# Altium integrated library Xilinx CoolRunner II.IntLib: 198 symbols (part 7 of 13)
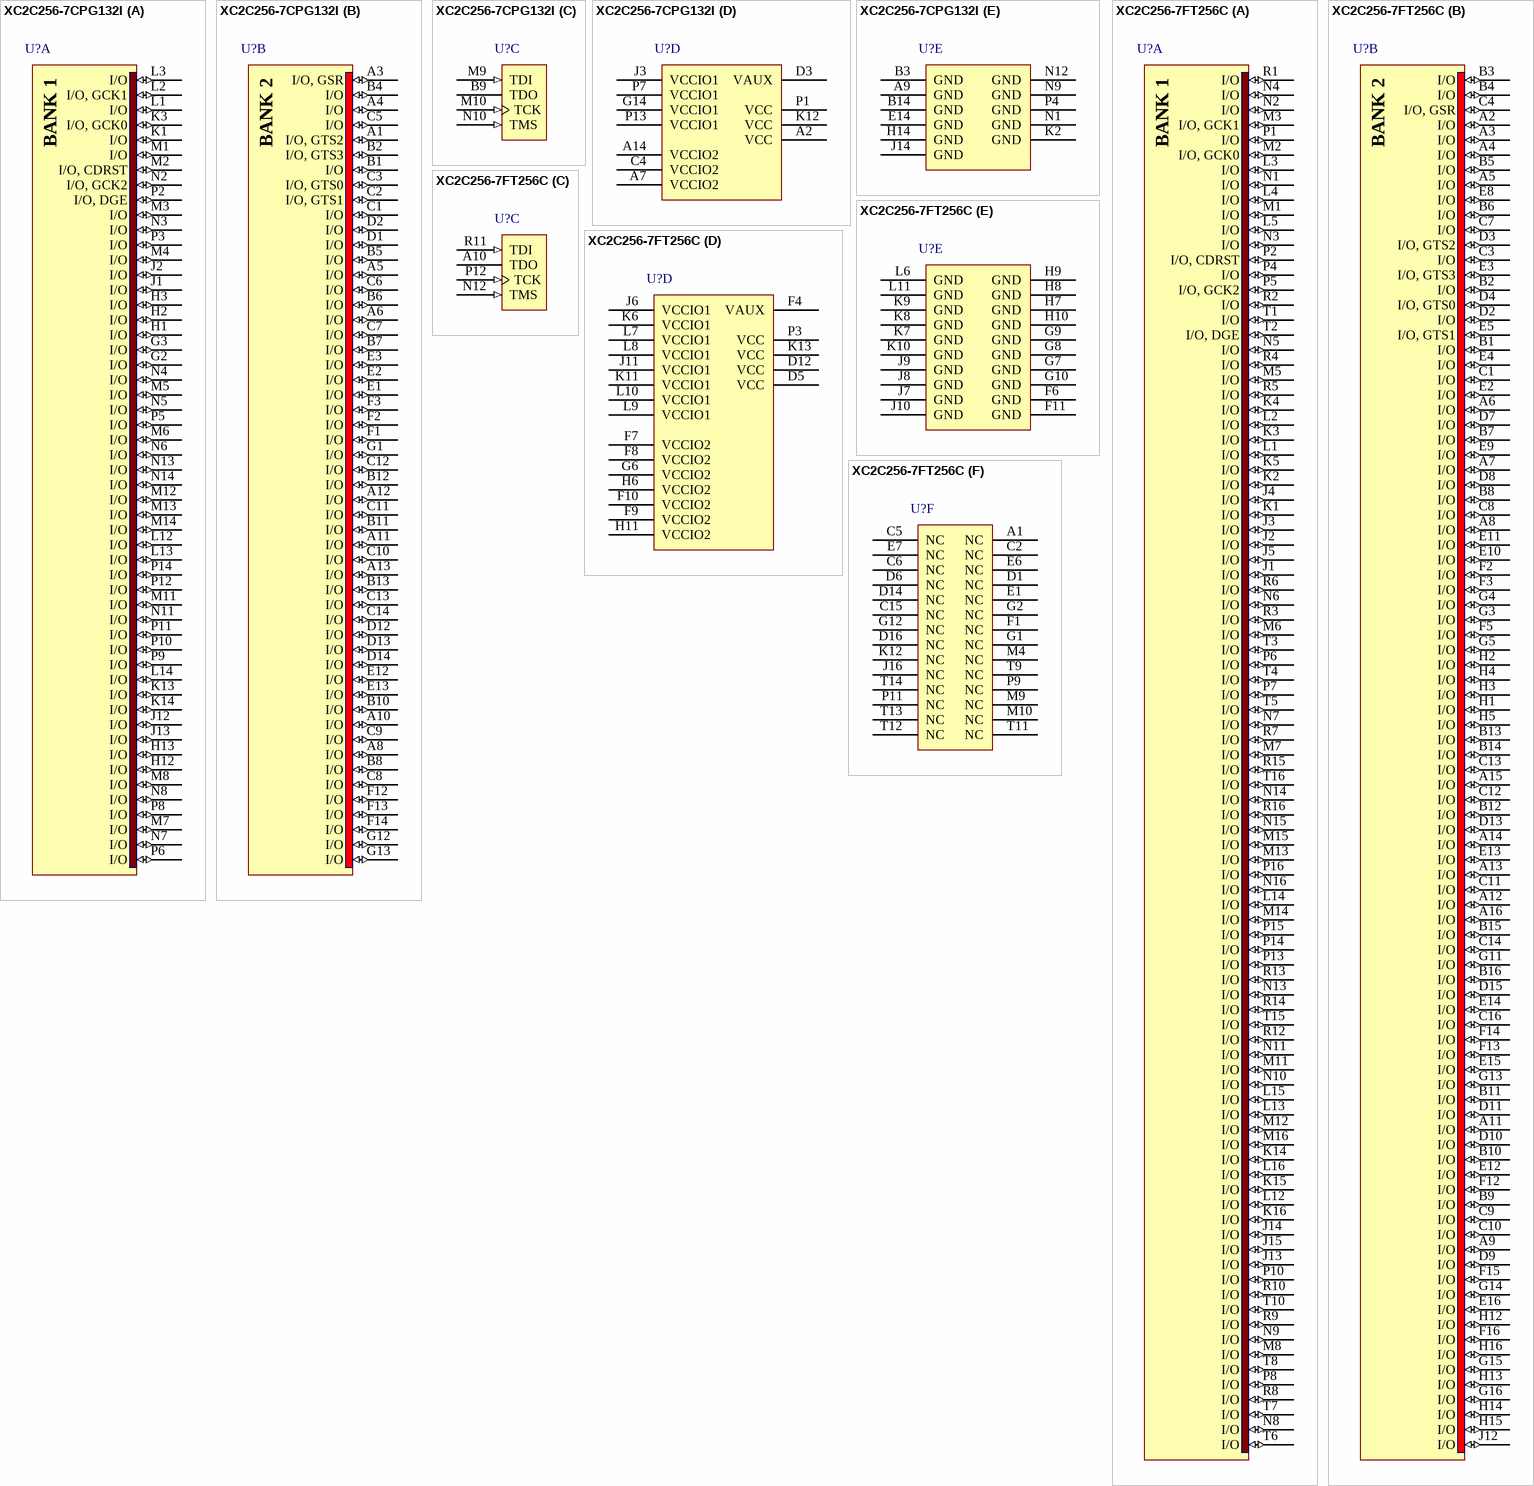
[diagram p75: symbols XC2C256-7CPG132I to XC2C256-7FT256C]

## XC2C256-7CPG132I
designator U?
CoolRunner-II, 1.8V, 256 Macrocell CPLD, 132-Ball CSP, Pb-Free, Industrial Grade; Published: 4-Mar-2005; LatestRevisionDate: 13-Apr-2006; LatestRevisionNote: IPC-7351 Footprint Added.; DatasheetVersion: ver3.2, Mar-2007; PackageVersion: ver1.2, Jun-2004; PackageReference: CPG132; Publisher: Altium Limited; PackageDescription: 132-Ball Chip Scale Ball Grid Array 0.5 mm Pitch (CPG132) - Pb-Free; ComponentLink1Description: Manufacturer Link; ComponentLink1URL: http://www.xilinx.com/products/silicon_solutions/cplds/coolrunner_series/coolrunner_ii_cplds/overview.htm; ComponentLink2Description: Datasheet; ComponentLink2URL: http://direct.xilinx.com/bvdocs/publications/ds094.pdf
footprint CPG132 (BGA, 132-Leads, Body 8x8mm, Pitch 0.5mm)
3D model XC2C256-CP132 (132-Ball Chip Scale Ball Grid Array 0.5 mm Pitch (CPG132) - Pb-Free)
signal-integrity model XC2C256_CP132 (CoolRunner-II)
part A pins: G2 I/O (io), G3 I/O (io), H1 I/O (io), H2 I/O (io), H3 I/O (io), H12 I/O (io), H13 I/O (io), J1 I/O (io), J2 I/O (io), J12 I/O (io), J13 I/O (io), K1 I/O (io), K3 I/O, GCK0 (io), K13 I/O (io), K14 I/O (io), L1 I/O (io), L2 I/O, GCK1 (io), L3 I/O (io), L12 I/O (io), L13 I/O (io), L14 I/O (io), M1 I/O (io), M2 I/O, CDRST (io), M3 I/O (io), M4 I/O (io), M5 I/O (io), M6 I/O (io), M7 I/O (io), M8 I/O (io), M11 I/O (io), M12 I/O (io), M13 I/O (io), M14 I/O (io), N2 I/O, GCK2 (io), N3 I/O (io), N4 I/O (io), N5 I/O (io), N6 I/O (io), N7 I/O (io), N8 I/O (io), N11 I/O (io), N13 I/O (io), N14 I/O (io), P2 I/O, DGE (io), P3 I/O (io), P5 I/O (io), P6 I/O (io), P8 I/O (io), P9 I/O (io), P10 I/O (io), P11 I/O (io), P12 I/O (io), P14 I/O (io)
part B pins: A1 I/O, GTS2 (io), A3 I/O, GSR (io), A4 I/O (io), A5 I/O (io), A6 I/O (io), A8 I/O (io), A10 I/O (io), A11 I/O (io), A12 I/O (io), A13 I/O (io), B1 I/O (io), B2 I/O, GTS3 (io), B4 I/O (io), B5 I/O (io), B6 I/O (io), B7 I/O (io), B8 I/O (io), B10 I/O (io), B11 I/O (io), B12 I/O (io), B13 I/O (io), C1 I/O (io), C2 I/O, GTS1 (io), C3 I/O, GTS0 (io), C5 I/O (io), C6 I/O (io), C7 I/O (io), C8 I/O (io), C9 I/O (io), C10 I/O (io), C11 I/O (io), C12 I/O (io), C13 I/O (io), C14 I/O (io), D1 I/O (io), D2 I/O (io), D12 I/O (io), D13 I/O (io), D14 I/O (io), E1 I/O (io), E2 I/O (io), E3 I/O (io), E12 I/O (io), E13 I/O (io), F1 I/O (io), F2 I/O (io), F3 I/O (io), F12 I/O (io), F13 I/O (io), F14 I/O (io), G1 I/O (io), G12 I/O (io), G13 I/O (io)
part C pins: B9 TDO, M9 TDI (in), M10 TCK (in), N10 TMS (in)
part D pins: A2 VCC (power), A7 VCCIO2 (power), A14 VCCIO2 (power), C4 VCCIO2 (power), D3 VAUX (power), G14 VCCIO1 (power), J3 VCCIO1 (power), K12 VCC (power), P1 VCC (power), P7 VCCIO1 (power), P13 VCCIO1 (power)
part E pins: A9 GND (power), B3 GND (power), B14 GND (power), E14 GND (power), H14 GND (power), J14 GND (power), K2 GND (power), N1 GND (power), N9 GND (power), N12 GND (power), P4 GND (power)
part A text: BANK 1
part B text: BANK 2

## XC2C256-7FT256C
designator U?
CoolRunner-II, 1.8V, 256 Macrocell CPLD, 256-Ball FTBGA, Commercial Grade; Published: 23-Sep-2002; LatestRevisionDate: 13-Apr-2006; LatestRevisionNote: IPC-7351 Footprint Added.; DatasheetVersion: ver3.2, Mar-2007; PackageVersion: ver1.2.1, Mar-2005; PackageReference: FT256; Publisher: Altium Limited; PackageDescription: 256-Ball Fine Pitch Thin Ball Grid Array 1.00 mm Pitch (FT256); Code_JEDEC: MS-034-AAF-1*; ComponentLink1Description: Manufacturer Link; ComponentLink1URL: http://www.xilinx.com/products/silicon_solutions/cplds/coolrunner_series/coolrunner_ii_cplds/overview.htm; ComponentLink2Description: Datasheet; ComponentLink2URL: http://direct.xilinx.com/bvdocs/publications/ds094.pdf
footprint FT256 (BGA, 256-Leads, Body 17x17mm, Pitch 1mm)
3D model XC2C256-FT256 (256-Ball Fine Pitch Thin Ball Grid Array 1.00 mm Pitch (FT256))
signal-integrity model XC2C256_FT256 (CoolRunner-II)
part A pins: J1 I/O (io), J2 I/O (io), J3 I/O (io), J4 I/O (io), J5 I/O (io), J13 I/O (io), J14 I/O (io), J15 I/O (io), K1 I/O (io), K2 I/O (io), K3 I/O (io), K4 I/O (io), K5 I/O (io), K14 I/O (io), K15 I/O (io), K16 I/O (io), L1 I/O (io), L2 I/O (io), L3 I/O (io), L4 I/O (io), L5 I/O (io), L12 I/O (io), L13 I/O (io), L14 I/O (io), L15 I/O (io), L16 I/O (io), M1 I/O (io), M2 I/O, GCK0 (io), M3 I/O, GCK1 (io), M5 I/O (io), M6 I/O (io), M7 I/O (io), M8 I/O (io), M11 I/O (io), M12 I/O (io), M13 I/O (io), M14 I/O (io), M15 I/O (io), M16 I/O (io), N1 I/O (io), N2 I/O (io), N3 I/O (io), N4 I/O (io), N5 I/O (io), N6 I/O (io), N7 I/O (io), N8 I/O (io), N9 I/O (io), N10 I/O (io), N11 I/O (io), N13 I/O (io), N14 I/O (io), N15 I/O (io), N16 I/O (io), P1 I/O (io), P2 I/O, CDRST (io), P4 I/O (io), P5 I/O, GCK2 (io), P6 I/O (io), P7 I/O (io), P8 I/O (io), P10 I/O (io), P13 I/O (io), P14 I/O (io), P15 I/O (io), P16 I/O (io), R1 I/O (io), R2 I/O (io), R3 I/O (io), R4 I/O (io), R5 I/O (io), R6 I/O (io), R7 I/O (io), R8 I/O (io), R9 I/O (io), R10 I/O (io), R12 I/O (io), R13 I/O (io), R14 I/O (io), R15 I/O (io), R16 I/O (io), T1 I/O (io), T2 I/O, DGE (io), T3 I/O (io), T4 I/O (io), T5 I/O (io), T6 I/O (io), T7 I/O (io), T8 I/O (io), T10 I/O (io), T15 I/O (io), T16 I/O (io)
part B pins: A2 I/O (io), A3 I/O (io), A4 I/O (io), A5 I/O (io), A6 I/O (io), A7 I/O (io), A8 I/O (io), A9 I/O (io), A11 I/O (io), A12 I/O (io), A13 I/O (io), A14 I/O (io), A15 I/O (io), A16 I/O (io), B1 I/O (io), B2 I/O (io), B3 I/O (io), B4 I/O (io), B5 I/O (io), B6 I/O (io), B7 I/O (io), B8 I/O (io), B9 I/O (io), B10 I/O (io), B11 I/O (io), B12 I/O (io), B13 I/O (io), B14 I/O (io), B15 I/O (io), B16 I/O (io), C1 I/O (io), C3 I/O (io), C4 I/O, GSR (io), C7 I/O (io), C8 I/O (io), C9 I/O (io), C10 I/O (io), C11 I/O (io), C12 I/O (io), C13 I/O (io), C14 I/O (io), C16 I/O (io), D2 I/O (io), D3 I/O, GTS2 (io), D4 I/O, GTS0 (io), D7 I/O (io), D8 I/O (io), D9 I/O (io), D10 I/O (io), D11 I/O (io), D13 I/O (io), D15 I/O (io), E2 I/O (io), E3 I/O, GTS3 (io), E4 I/O (io), E5 I/O, GTS1 (io), E8 I/O (io), E9 I/O (io), E10 I/O (io), E11 I/O (io), E12 I/O (io), E13 I/O (io), E14 I/O (io), E15 I/O (io), E16 I/O (io), F2 I/O (io), F3 I/O (io), F5 I/O (io), F12 I/O (io), F13 I/O (io), F14 I/O (io), F15 I/O (io), F16 I/O (io), G3 I/O (io), G4 I/O (io), G5 I/O (io), G11 I/O (io), G13 I/O (io), G14 I/O (io), G15 I/O (io), G16 I/O (io), H1 I/O (io), H2 I/O (io), H3 I/O (io), H4 I/O (io), H5 I/O (io), H12 I/O (io), H13 I/O (io), H14 I/O (io), H15 I/O (io), H16 I/O (io), J12 I/O (io)
part C pins: A10 TDO, N12 TMS (in), P12 TCK (in), R11 TDI (in)
part D pins: D5 VCC (power), D12 VCC (power), F4 VAUX (power), F7 VCCIO2 (power), F8 VCCIO2 (power), F9 VCCIO2 (power), F10 VCCIO2 (power), G6 VCCIO2 (power), H6 VCCIO2 (power), H11 VCCIO2 (power), J6 VCCIO1 (power), J11 VCCIO1 (power), K6 VCCIO1 (power), K11 VCCIO1 (power), K13 VCC (power), L7 VCCIO1 (power), L8 VCCIO1 (power), L9 VCCIO1 (power), L10 VCCIO1 (power), P3 VCC (power)
part E pins: F6 GND (power), F11 GND (power), G7 GND (power), G8 GND (power), G9 GND (power), G10 GND (power), H7 GND (power), H8 GND (power), H9 GND (power), H10 GND (power), J7 GND (power), J8 GND (power), J9 GND (power), J10 GND (power), K7 GND (power), K8 GND (power), K9 GND (power), K10 GND (power), L6 GND (power), L11 GND (power)
part F pins: A1 NC, C2 NC, C5 NC, C6 NC, C15 NC, D1 NC, D6 NC, D14 NC, D16 NC, E1 NC, E6 NC, E7 NC, F1 NC, G1 NC, G2 NC, G12 NC, J16 NC, K12 NC, M4 NC, M9 NC, M10 NC, P9 NC, P11 NC, T9 NC, T11 NC, T12 NC, T13 NC, T14 NC
part A text: BANK 1
part B text: BANK 2

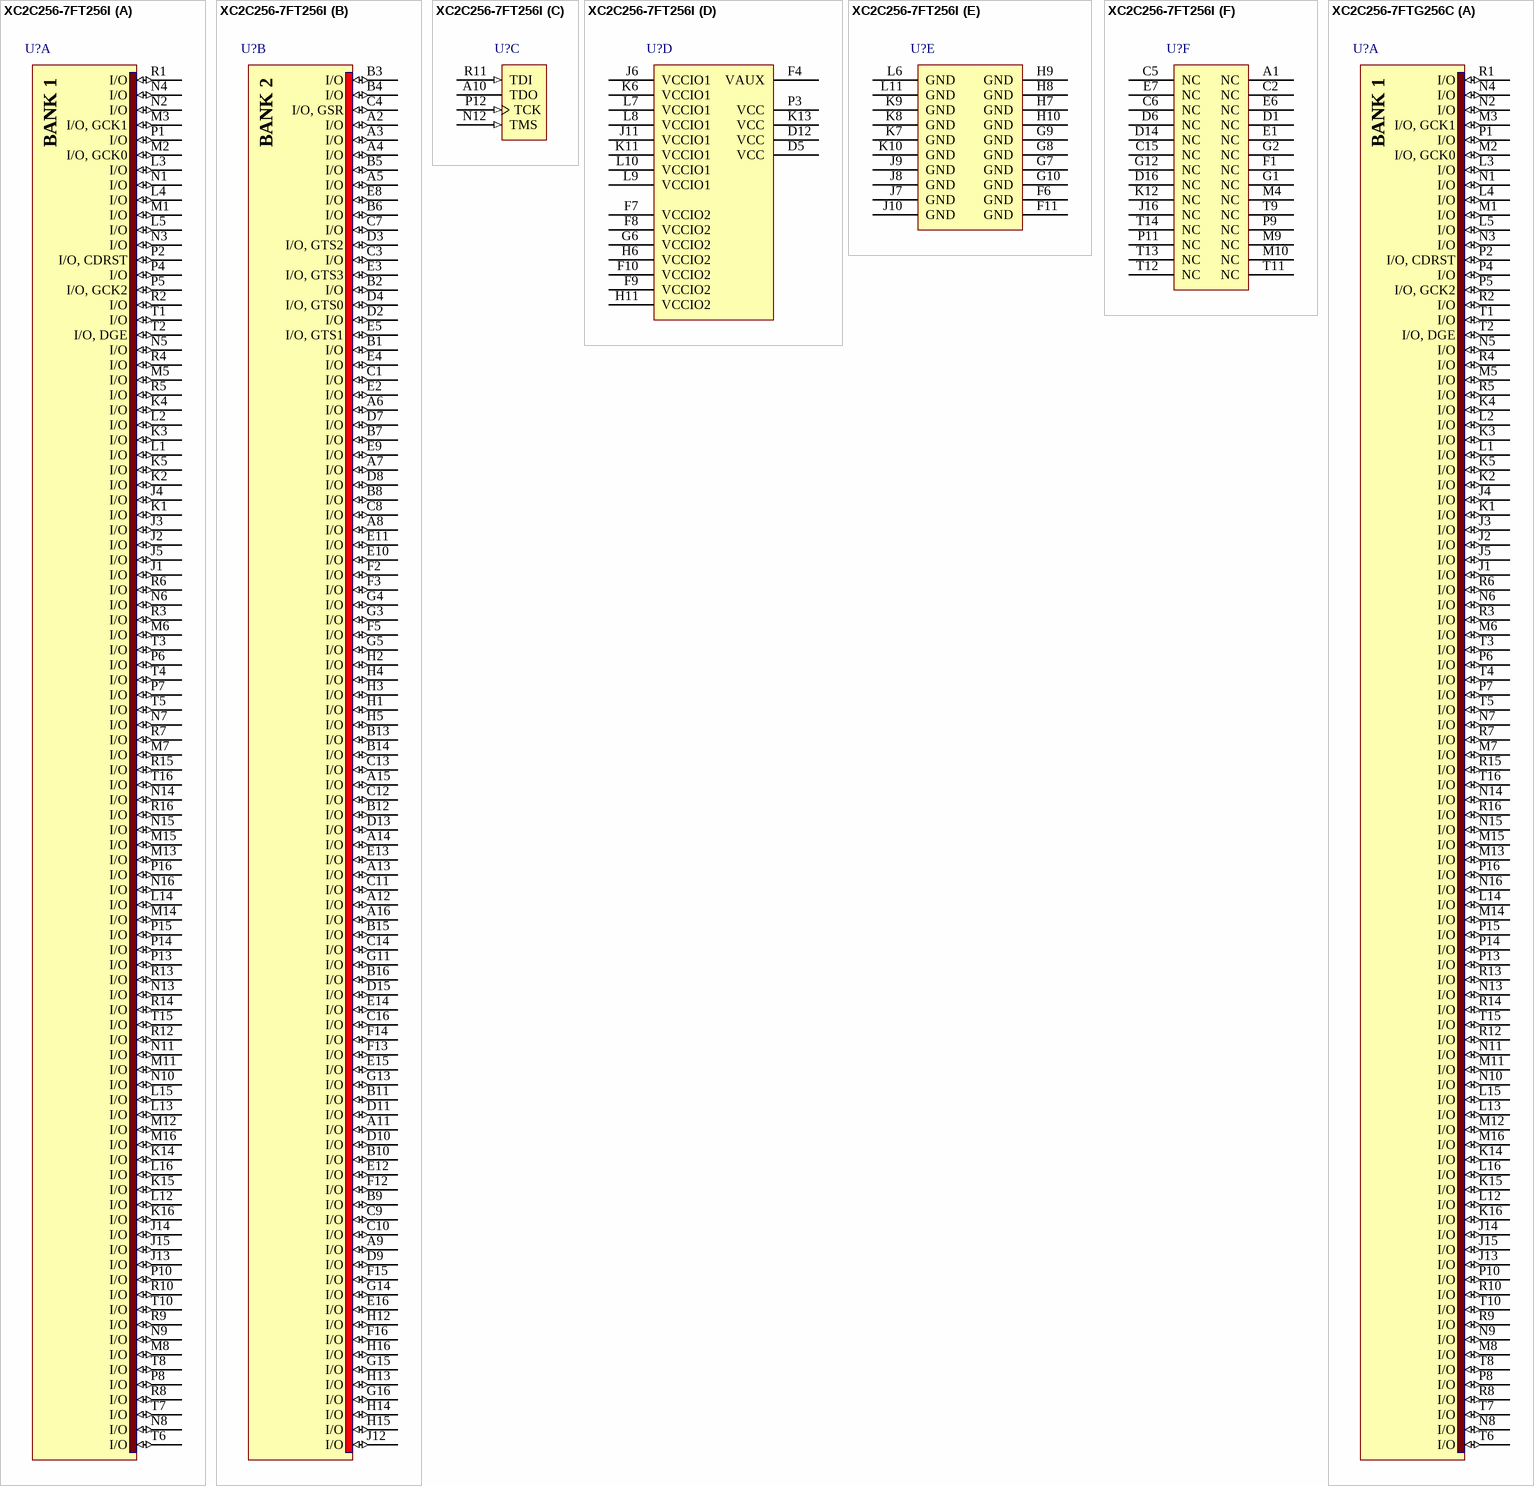
[diagram p30: symbols XC2C256-7FT256I to XC2C256-7FTG256C]

## XC2C256-7FT256I
designator U?
CoolRunner-II, 1.8V, 256 Macrocell CPLD, 256-Ball FTBGA, Industrial Grade; Published: 23-Sep-2002; LatestRevisionDate: 13-Apr-2006; LatestRevisionNote: IPC-7351 Footprint Added.; DatasheetVersion: ver3.2, Mar-2007; PackageVersion: ver1.2.1, Mar-2005; PackageReference: FT256; Publisher: Altium Limited; PackageDescription: 256-Ball Fine Pitch Thin Ball Grid Array 1.00 mm Pitch (FT256); Code_JEDEC: MS-034-AAF-1*; ComponentLink1Description: Manufacturer Link; ComponentLink1URL: http://www.xilinx.com/products/silicon_solutions/cplds/coolrunner_series/coolrunner_ii_cplds/overview.htm; ComponentLink2Description: Datasheet; ComponentLink2URL: http://direct.xilinx.com/bvdocs/publications/ds094.pdf
footprint FT256 (BGA, 256-Leads, Body 17x17mm, Pitch 1mm)
3D model XC2C256-FT256 (256-Ball Fine Pitch Thin Ball Grid Array 1.00 mm Pitch (FT256))
signal-integrity model XC2C256_FT256 (CoolRunner-II)
part A pins: J1 I/O (io), J2 I/O (io), J3 I/O (io), J4 I/O (io), J5 I/O (io), J13 I/O (io), J14 I/O (io), J15 I/O (io), K1 I/O (io), K2 I/O (io), K3 I/O (io), K4 I/O (io), K5 I/O (io), K14 I/O (io), K15 I/O (io), K16 I/O (io), L1 I/O (io), L2 I/O (io), L3 I/O (io), L4 I/O (io), L5 I/O (io), L12 I/O (io), L13 I/O (io), L14 I/O (io), L15 I/O (io), L16 I/O (io), M1 I/O (io), M2 I/O, GCK0 (io), M3 I/O, GCK1 (io), M5 I/O (io), M6 I/O (io), M7 I/O (io), M8 I/O (io), M11 I/O (io), M12 I/O (io), M13 I/O (io), M14 I/O (io), M15 I/O (io), M16 I/O (io), N1 I/O (io), N2 I/O (io), N3 I/O (io), N4 I/O (io), N5 I/O (io), N6 I/O (io), N7 I/O (io), N8 I/O (io), N9 I/O (io), N10 I/O (io), N11 I/O (io), N13 I/O (io), N14 I/O (io), N15 I/O (io), N16 I/O (io), P1 I/O (io), P2 I/O, CDRST (io), P4 I/O (io), P5 I/O, GCK2 (io), P6 I/O (io), P7 I/O (io), P8 I/O (io), P10 I/O (io), P13 I/O (io), P14 I/O (io), P15 I/O (io), P16 I/O (io), R1 I/O (io), R2 I/O (io), R3 I/O (io), R4 I/O (io), R5 I/O (io), R6 I/O (io), R7 I/O (io), R8 I/O (io), R9 I/O (io), R10 I/O (io), R12 I/O (io), R13 I/O (io), R14 I/O (io), R15 I/O (io), R16 I/O (io), T1 I/O (io), T2 I/O, DGE (io), T3 I/O (io), T4 I/O (io), T5 I/O (io), T6 I/O (io), T7 I/O (io), T8 I/O (io), T10 I/O (io), T15 I/O (io), T16 I/O (io)
part B pins: A2 I/O (io), A3 I/O (io), A4 I/O (io), A5 I/O (io), A6 I/O (io), A7 I/O (io), A8 I/O (io), A9 I/O (io), A11 I/O (io), A12 I/O (io), A13 I/O (io), A14 I/O (io), A15 I/O (io), A16 I/O (io), B1 I/O (io), B2 I/O (io), B3 I/O (io), B4 I/O (io), B5 I/O (io), B6 I/O (io), B7 I/O (io), B8 I/O (io), B9 I/O (io), B10 I/O (io), B11 I/O (io), B12 I/O (io), B13 I/O (io), B14 I/O (io), B15 I/O (io), B16 I/O (io), C1 I/O (io), C3 I/O (io), C4 I/O, GSR (io), C7 I/O (io), C8 I/O (io), C9 I/O (io), C10 I/O (io), C11 I/O (io), C12 I/O (io), C13 I/O (io), C14 I/O (io), C16 I/O (io), D2 I/O (io), D3 I/O, GTS2 (io), D4 I/O, GTS0 (io), D7 I/O (io), D8 I/O (io), D9 I/O (io), D10 I/O (io), D11 I/O (io), D13 I/O (io), D15 I/O (io), E2 I/O (io), E3 I/O, GTS3 (io), E4 I/O (io), E5 I/O, GTS1 (io), E8 I/O (io), E9 I/O (io), E10 I/O (io), E11 I/O (io), E12 I/O (io), E13 I/O (io), E14 I/O (io), E15 I/O (io), E16 I/O (io), F2 I/O (io), F3 I/O (io), F5 I/O (io), F12 I/O (io), F13 I/O (io), F14 I/O (io), F15 I/O (io), F16 I/O (io), G3 I/O (io), G4 I/O (io), G5 I/O (io), G11 I/O (io), G13 I/O (io), G14 I/O (io), G15 I/O (io), G16 I/O (io), H1 I/O (io), H2 I/O (io), H3 I/O (io), H4 I/O (io), H5 I/O (io), H12 I/O (io), H13 I/O (io), H14 I/O (io), H15 I/O (io), H16 I/O (io), J12 I/O (io)
part C pins: A10 TDO, N12 TMS (in), P12 TCK (in), R11 TDI (in)
part D pins: D5 VCC (power), D12 VCC (power), F4 VAUX (power), F7 VCCIO2 (power), F8 VCCIO2 (power), F9 VCCIO2 (power), F10 VCCIO2 (power), G6 VCCIO2 (power), H6 VCCIO2 (power), H11 VCCIO2 (power), J6 VCCIO1 (power), J11 VCCIO1 (power), K6 VCCIO1 (power), K11 VCCIO1 (power), K13 VCC (power), L7 VCCIO1 (power), L8 VCCIO1 (power), L9 VCCIO1 (power), L10 VCCIO1 (power), P3 VCC (power)
part E pins: F6 GND (power), F11 GND (power), G7 GND (power), G8 GND (power), G9 GND (power), G10 GND (power), H7 GND (power), H8 GND (power), H9 GND (power), H10 GND (power), J7 GND (power), J8 GND (power), J9 GND (power), J10 GND (power), K7 GND (power), K8 GND (power), K9 GND (power), K10 GND (power), L6 GND (power), L11 GND (power)
part F pins: A1 NC, C2 NC, C5 NC, C6 NC, C15 NC, D1 NC, D6 NC, D14 NC, D16 NC, E1 NC, E6 NC, E7 NC, F1 NC, G1 NC, G2 NC, G12 NC, J16 NC, K12 NC, M4 NC, M9 NC, M10 NC, P9 NC, P11 NC, T9 NC, T11 NC, T12 NC, T13 NC, T14 NC
part A text: BANK 1
part B text: BANK 2

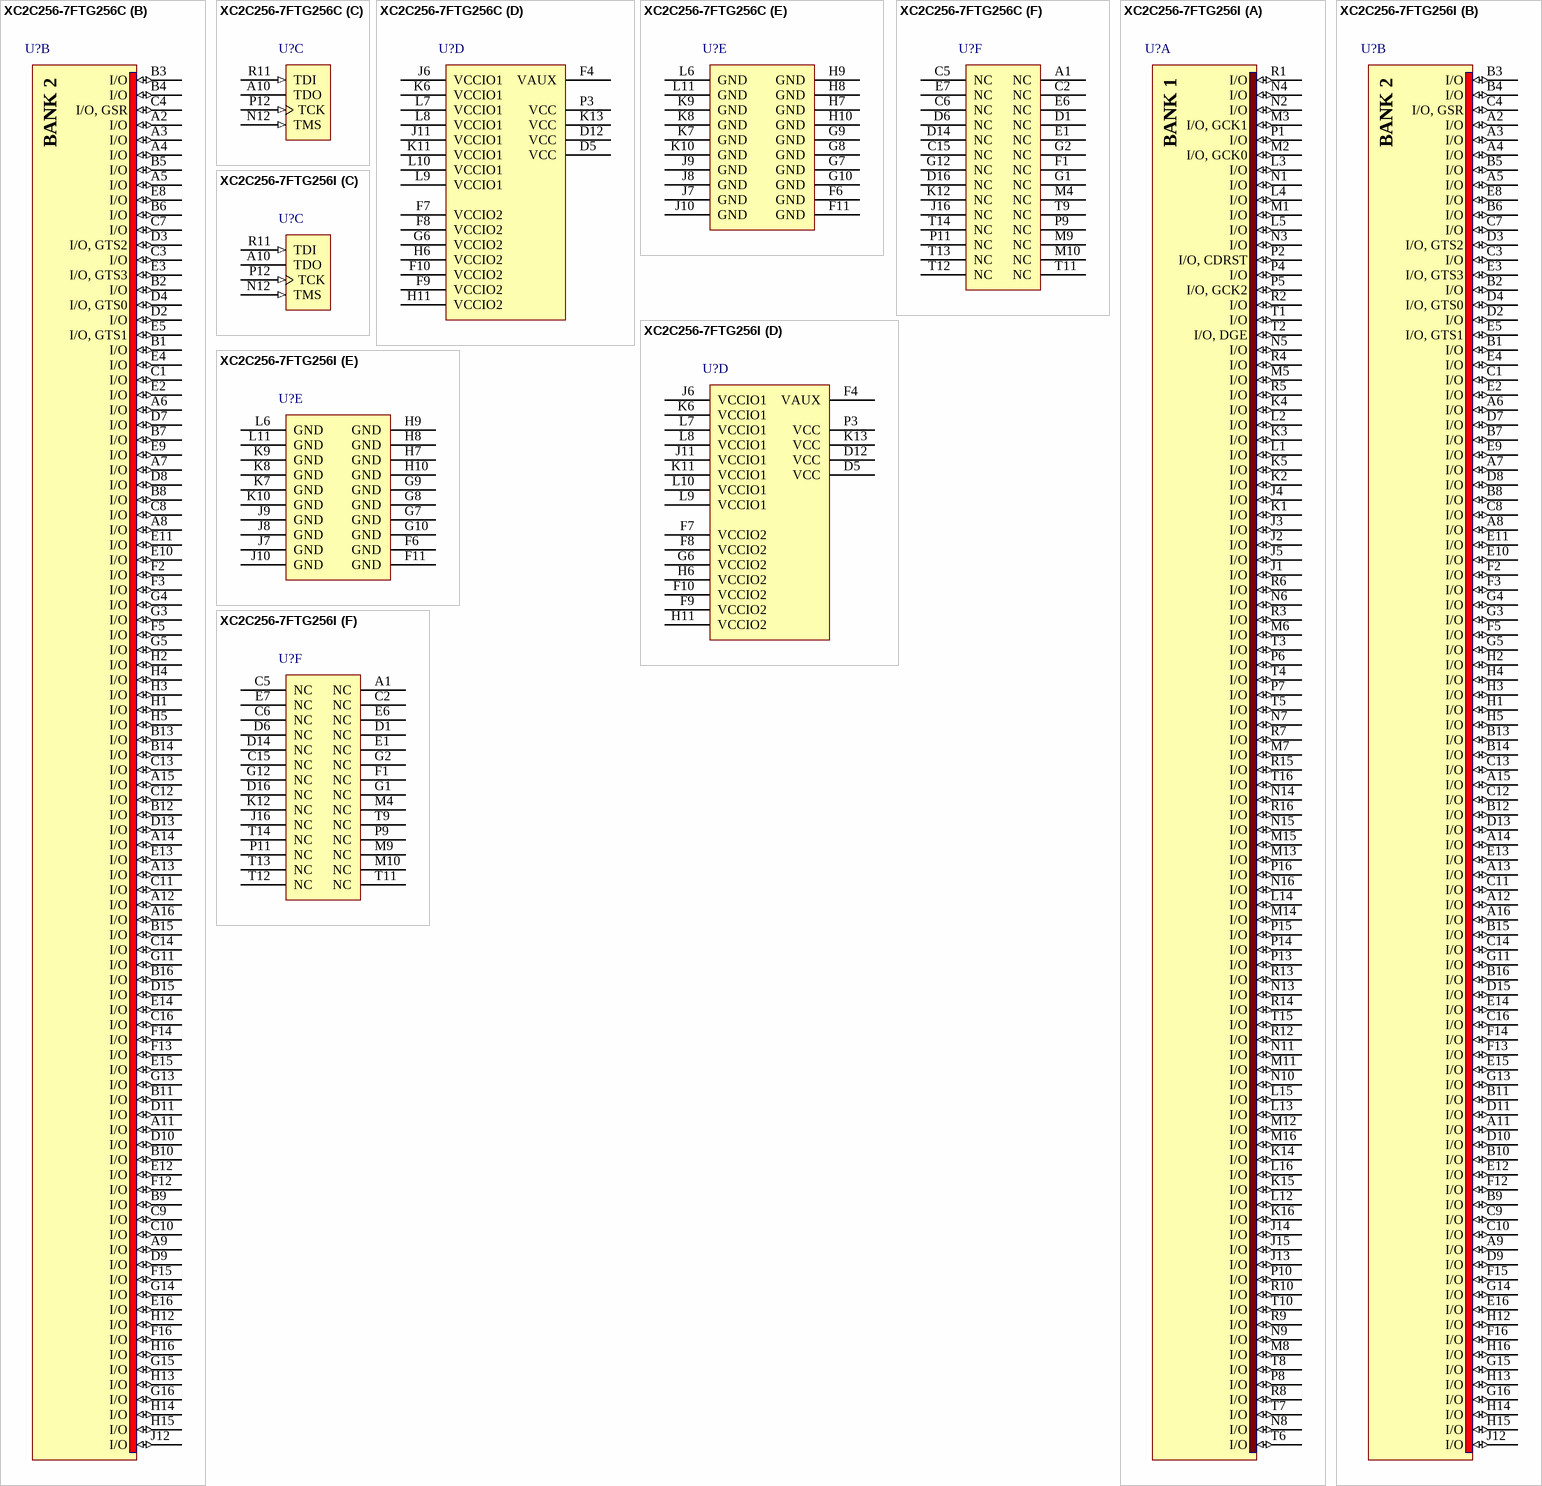
[diagram p31: symbols XC2C256-7FTG256C to XC2C256-7FTG256I]

## XC2C256-7FTG256C
designator U?
CoolRunner-II, 1.8V, 256 Macrocell CPLD, 256-Ball FTBGA, Pb-Free, Commercial Grade; Published: 4-Mar-2005; LatestRevisionDate: 13-Apr-2006; LatestRevisionNote: IPC-7351 Footprint Added.; DatasheetVersion: ver3.2, Mar-2007; PackageVersion: ver1.2.1, Mar-2005; PackageReference: FTG256; Publisher: Altium Limited; PackageDescription: 256-Ball Fine Pitch Thin Ball Grid Array 1.00 mm Pitch (FTG256) - Pb-Free; Code_JEDEC: MS-034-AAF-1*; ComponentLink1Description: Manufacturer Link; ComponentLink1URL: http://www.xilinx.com/products/silicon_solutions/cplds/coolrunner_series/coolrunner_ii_cplds/overview.htm; ComponentLink2Description: Datasheet; ComponentLink2URL: http://direct.xilinx.com/bvdocs/publications/ds094.pdf
footprint FTG256 (BGA, 256-Leads, Body 17x17mm, Pitch 1mm)
3D model XC2C256-FT256 (256-Ball Fine Pitch Thin Ball Grid Array 1.00 mm Pitch (FTG256) - Pb-Free)
signal-integrity model XC2C256_FT256 (CoolRunner-II)
part A pins: J1 I/O (io), J2 I/O (io), J3 I/O (io), J4 I/O (io), J5 I/O (io), J13 I/O (io), J14 I/O (io), J15 I/O (io), K1 I/O (io), K2 I/O (io), K3 I/O (io), K4 I/O (io), K5 I/O (io), K14 I/O (io), K15 I/O (io), K16 I/O (io), L1 I/O (io), L2 I/O (io), L3 I/O (io), L4 I/O (io), L5 I/O (io), L12 I/O (io), L13 I/O (io), L14 I/O (io), L15 I/O (io), L16 I/O (io), M1 I/O (io), M2 I/O, GCK0 (io), M3 I/O, GCK1 (io), M5 I/O (io), M6 I/O (io), M7 I/O (io), M8 I/O (io), M11 I/O (io), M12 I/O (io), M13 I/O (io), M14 I/O (io), M15 I/O (io), M16 I/O (io), N1 I/O (io), N2 I/O (io), N3 I/O (io), N4 I/O (io), N5 I/O (io), N6 I/O (io), N7 I/O (io), N8 I/O (io), N9 I/O (io), N10 I/O (io), N11 I/O (io), N13 I/O (io), N14 I/O (io), N15 I/O (io), N16 I/O (io), P1 I/O (io), P2 I/O, CDRST (io), P4 I/O (io), P5 I/O, GCK2 (io), P6 I/O (io), P7 I/O (io), P8 I/O (io), P10 I/O (io), P13 I/O (io), P14 I/O (io), P15 I/O (io), P16 I/O (io), R1 I/O (io), R2 I/O (io), R3 I/O (io), R4 I/O (io), R5 I/O (io), R6 I/O (io), R7 I/O (io), R8 I/O (io), R9 I/O (io), R10 I/O (io), R12 I/O (io), R13 I/O (io), R14 I/O (io), R15 I/O (io), R16 I/O (io), T1 I/O (io), T2 I/O, DGE (io), T3 I/O (io), T4 I/O (io), T5 I/O (io), T6 I/O (io), T7 I/O (io), T8 I/O (io), T10 I/O (io), T15 I/O (io), T16 I/O (io)
part B pins: A2 I/O (io), A3 I/O (io), A4 I/O (io), A5 I/O (io), A6 I/O (io), A7 I/O (io), A8 I/O (io), A9 I/O (io), A11 I/O (io), A12 I/O (io), A13 I/O (io), A14 I/O (io), A15 I/O (io), A16 I/O (io), B1 I/O (io), B2 I/O (io), B3 I/O (io), B4 I/O (io), B5 I/O (io), B6 I/O (io), B7 I/O (io), B8 I/O (io), B9 I/O (io), B10 I/O (io), B11 I/O (io), B12 I/O (io), B13 I/O (io), B14 I/O (io), B15 I/O (io), B16 I/O (io), C1 I/O (io), C3 I/O (io), C4 I/O, GSR (io), C7 I/O (io), C8 I/O (io), C9 I/O (io), C10 I/O (io), C11 I/O (io), C12 I/O (io), C13 I/O (io), C14 I/O (io), C16 I/O (io), D2 I/O (io), D3 I/O, GTS2 (io), D4 I/O, GTS0 (io), D7 I/O (io), D8 I/O (io), D9 I/O (io), D10 I/O (io), D11 I/O (io), D13 I/O (io), D15 I/O (io), E2 I/O (io), E3 I/O, GTS3 (io), E4 I/O (io), E5 I/O, GTS1 (io), E8 I/O (io), E9 I/O (io), E10 I/O (io), E11 I/O (io), E12 I/O (io), E13 I/O (io), E14 I/O (io), E15 I/O (io), E16 I/O (io), F2 I/O (io), F3 I/O (io), F5 I/O (io), F12 I/O (io), F13 I/O (io), F14 I/O (io), F15 I/O (io), F16 I/O (io), G3 I/O (io), G4 I/O (io), G5 I/O (io), G11 I/O (io), G13 I/O (io), G14 I/O (io), G15 I/O (io), G16 I/O (io), H1 I/O (io), H2 I/O (io), H3 I/O (io), H4 I/O (io), H5 I/O (io), H12 I/O (io), H13 I/O (io), H14 I/O (io), H15 I/O (io), H16 I/O (io), J12 I/O (io)
part C pins: A10 TDO, N12 TMS (in), P12 TCK (in), R11 TDI (in)
part D pins: D5 VCC (power), D12 VCC (power), F4 VAUX (power), F7 VCCIO2 (power), F8 VCCIO2 (power), F9 VCCIO2 (power), F10 VCCIO2 (power), G6 VCCIO2 (power), H6 VCCIO2 (power), H11 VCCIO2 (power), J6 VCCIO1 (power), J11 VCCIO1 (power), K6 VCCIO1 (power), K11 VCCIO1 (power), K13 VCC (power), L7 VCCIO1 (power), L8 VCCIO1 (power), L9 VCCIO1 (power), L10 VCCIO1 (power), P3 VCC (power)
part E pins: F6 GND (power), F11 GND (power), G7 GND (power), G8 GND (power), G9 GND (power), G10 GND (power), H7 GND (power), H8 GND (power), H9 GND (power), H10 GND (power), J7 GND (power), J8 GND (power), J9 GND (power), J10 GND (power), K7 GND (power), K8 GND (power), K9 GND (power), K10 GND (power), L6 GND (power), L11 GND (power)
part F pins: A1 NC, C2 NC, C5 NC, C6 NC, C15 NC, D1 NC, D6 NC, D14 NC, D16 NC, E1 NC, E6 NC, E7 NC, F1 NC, G1 NC, G2 NC, G12 NC, J16 NC, K12 NC, M4 NC, M9 NC, M10 NC, P9 NC, P11 NC, T9 NC, T11 NC, T12 NC, T13 NC, T14 NC
part A text: BANK 1
part B text: BANK 2

## XC2C256-7FTG256I
designator U?
CoolRunner-II, 1.8V, 256 Macrocell CPLD, 256-Ball FTBGA, Pb-Free, Industrial Grade; Published: 4-Mar-2005; LatestRevisionDate: 13-Apr-2006; LatestRevisionNote: IPC-7351 Footprint Added.; DatasheetVersion: ver3.2, Mar-2007; PackageVersion: ver1.2.1, Mar-2005; PackageReference: FTG256; Publisher: Altium Limited; PackageDescription: 256-Ball Fine Pitch Thin Ball Grid Array 1.00 mm Pitch (FTG256) - Pb-Free; Code_JEDEC: MS-034-AAF-1*; ComponentLink1Description: Manufacturer Link; ComponentLink1URL: http://www.xilinx.com/products/silicon_solutions/cplds/coolrunner_series/coolrunner_ii_cplds/overview.htm; ComponentLink2Description: Datasheet; ComponentLink2URL: http://direct.xilinx.com/bvdocs/publications/ds094.pdf
footprint FTG256 (BGA, 256-Leads, Body 17x17mm, Pitch 1mm)
3D model XC2C256-FT256 (256-Ball Fine Pitch Thin Ball Grid Array 1.00 mm Pitch (FTG256) - Pb-Free)
signal-integrity model XC2C256_FT256 (CoolRunner-II)
part A pins: J1 I/O (io), J2 I/O (io), J3 I/O (io), J4 I/O (io), J5 I/O (io), J13 I/O (io), J14 I/O (io), J15 I/O (io), K1 I/O (io), K2 I/O (io), K3 I/O (io), K4 I/O (io), K5 I/O (io), K14 I/O (io), K15 I/O (io), K16 I/O (io), L1 I/O (io), L2 I/O (io), L3 I/O (io), L4 I/O (io), L5 I/O (io), L12 I/O (io), L13 I/O (io), L14 I/O (io), L15 I/O (io), L16 I/O (io), M1 I/O (io), M2 I/O, GCK0 (io), M3 I/O, GCK1 (io), M5 I/O (io), M6 I/O (io), M7 I/O (io), M8 I/O (io), M11 I/O (io), M12 I/O (io), M13 I/O (io), M14 I/O (io), M15 I/O (io), M16 I/O (io), N1 I/O (io), N2 I/O (io), N3 I/O (io), N4 I/O (io), N5 I/O (io), N6 I/O (io), N7 I/O (io), N8 I/O (io), N9 I/O (io), N10 I/O (io), N11 I/O (io), N13 I/O (io), N14 I/O (io), N15 I/O (io), N16 I/O (io), P1 I/O (io), P2 I/O, CDRST (io), P4 I/O (io), P5 I/O, GCK2 (io), P6 I/O (io), P7 I/O (io), P8 I/O (io), P10 I/O (io), P13 I/O (io), P14 I/O (io), P15 I/O (io), P16 I/O (io), R1 I/O (io), R2 I/O (io), R3 I/O (io), R4 I/O (io), R5 I/O (io), R6 I/O (io), R7 I/O (io), R8 I/O (io), R9 I/O (io), R10 I/O (io), R12 I/O (io), R13 I/O (io), R14 I/O (io), R15 I/O (io), R16 I/O (io), T1 I/O (io), T2 I/O, DGE (io), T3 I/O (io), T4 I/O (io), T5 I/O (io), T6 I/O (io), T7 I/O (io), T8 I/O (io), T10 I/O (io), T15 I/O (io), T16 I/O (io)
part B pins: A2 I/O (io), A3 I/O (io), A4 I/O (io), A5 I/O (io), A6 I/O (io), A7 I/O (io), A8 I/O (io), A9 I/O (io), A11 I/O (io), A12 I/O (io), A13 I/O (io), A14 I/O (io), A15 I/O (io), A16 I/O (io), B1 I/O (io), B2 I/O (io), B3 I/O (io), B4 I/O (io), B5 I/O (io), B6 I/O (io), B7 I/O (io), B8 I/O (io), B9 I/O (io), B10 I/O (io), B11 I/O (io), B12 I/O (io), B13 I/O (io), B14 I/O (io), B15 I/O (io), B16 I/O (io), C1 I/O (io), C3 I/O (io), C4 I/O, GSR (io), C7 I/O (io), C8 I/O (io), C9 I/O (io), C10 I/O (io), C11 I/O (io), C12 I/O (io), C13 I/O (io), C14 I/O (io), C16 I/O (io), D2 I/O (io), D3 I/O, GTS2 (io), D4 I/O, GTS0 (io), D7 I/O (io), D8 I/O (io), D9 I/O (io), D10 I/O (io), D11 I/O (io), D13 I/O (io), D15 I/O (io), E2 I/O (io), E3 I/O, GTS3 (io), E4 I/O (io), E5 I/O, GTS1 (io), E8 I/O (io), E9 I/O (io), E10 I/O (io), E11 I/O (io), E12 I/O (io), E13 I/O (io), E14 I/O (io), E15 I/O (io), E16 I/O (io), F2 I/O (io), F3 I/O (io), F5 I/O (io), F12 I/O (io), F13 I/O (io), F14 I/O (io), F15 I/O (io), F16 I/O (io), G3 I/O (io), G4 I/O (io), G5 I/O (io), G11 I/O (io), G13 I/O (io), G14 I/O (io), G15 I/O (io), G16 I/O (io), H1 I/O (io), H2 I/O (io), H3 I/O (io), H4 I/O (io), H5 I/O (io), H12 I/O (io), H13 I/O (io), H14 I/O (io), H15 I/O (io), H16 I/O (io), J12 I/O (io)
part C pins: A10 TDO, N12 TMS (in), P12 TCK (in), R11 TDI (in)
part D pins: D5 VCC (power), D12 VCC (power), F4 VAUX (power), F7 VCCIO2 (power), F8 VCCIO2 (power), F9 VCCIO2 (power), F10 VCCIO2 (power), G6 VCCIO2 (power), H6 VCCIO2 (power), H11 VCCIO2 (power), J6 VCCIO1 (power), J11 VCCIO1 (power), K6 VCCIO1 (power), K11 VCCIO1 (power), K13 VCC (power), L7 VCCIO1 (power), L8 VCCIO1 (power), L9 VCCIO1 (power), L10 VCCIO1 (power), P3 VCC (power)
part E pins: F6 GND (power), F11 GND (power), G7 GND (power), G8 GND (power), G9 GND (power), G10 GND (power), H7 GND (power), H8 GND (power), H9 GND (power), H10 GND (power), J7 GND (power), J8 GND (power), J9 GND (power), J10 GND (power), K7 GND (power), K8 GND (power), K9 GND (power), K10 GND (power), L6 GND (power), L11 GND (power)
part F pins: A1 NC, C2 NC, C5 NC, C6 NC, C15 NC, D1 NC, D6 NC, D14 NC, D16 NC, E1 NC, E6 NC, E7 NC, F1 NC, G1 NC, G2 NC, G12 NC, J16 NC, K12 NC, M4 NC, M9 NC, M10 NC, P9 NC, P11 NC, T9 NC, T11 NC, T12 NC, T13 NC, T14 NC
part A text: BANK 1
part B text: BANK 2

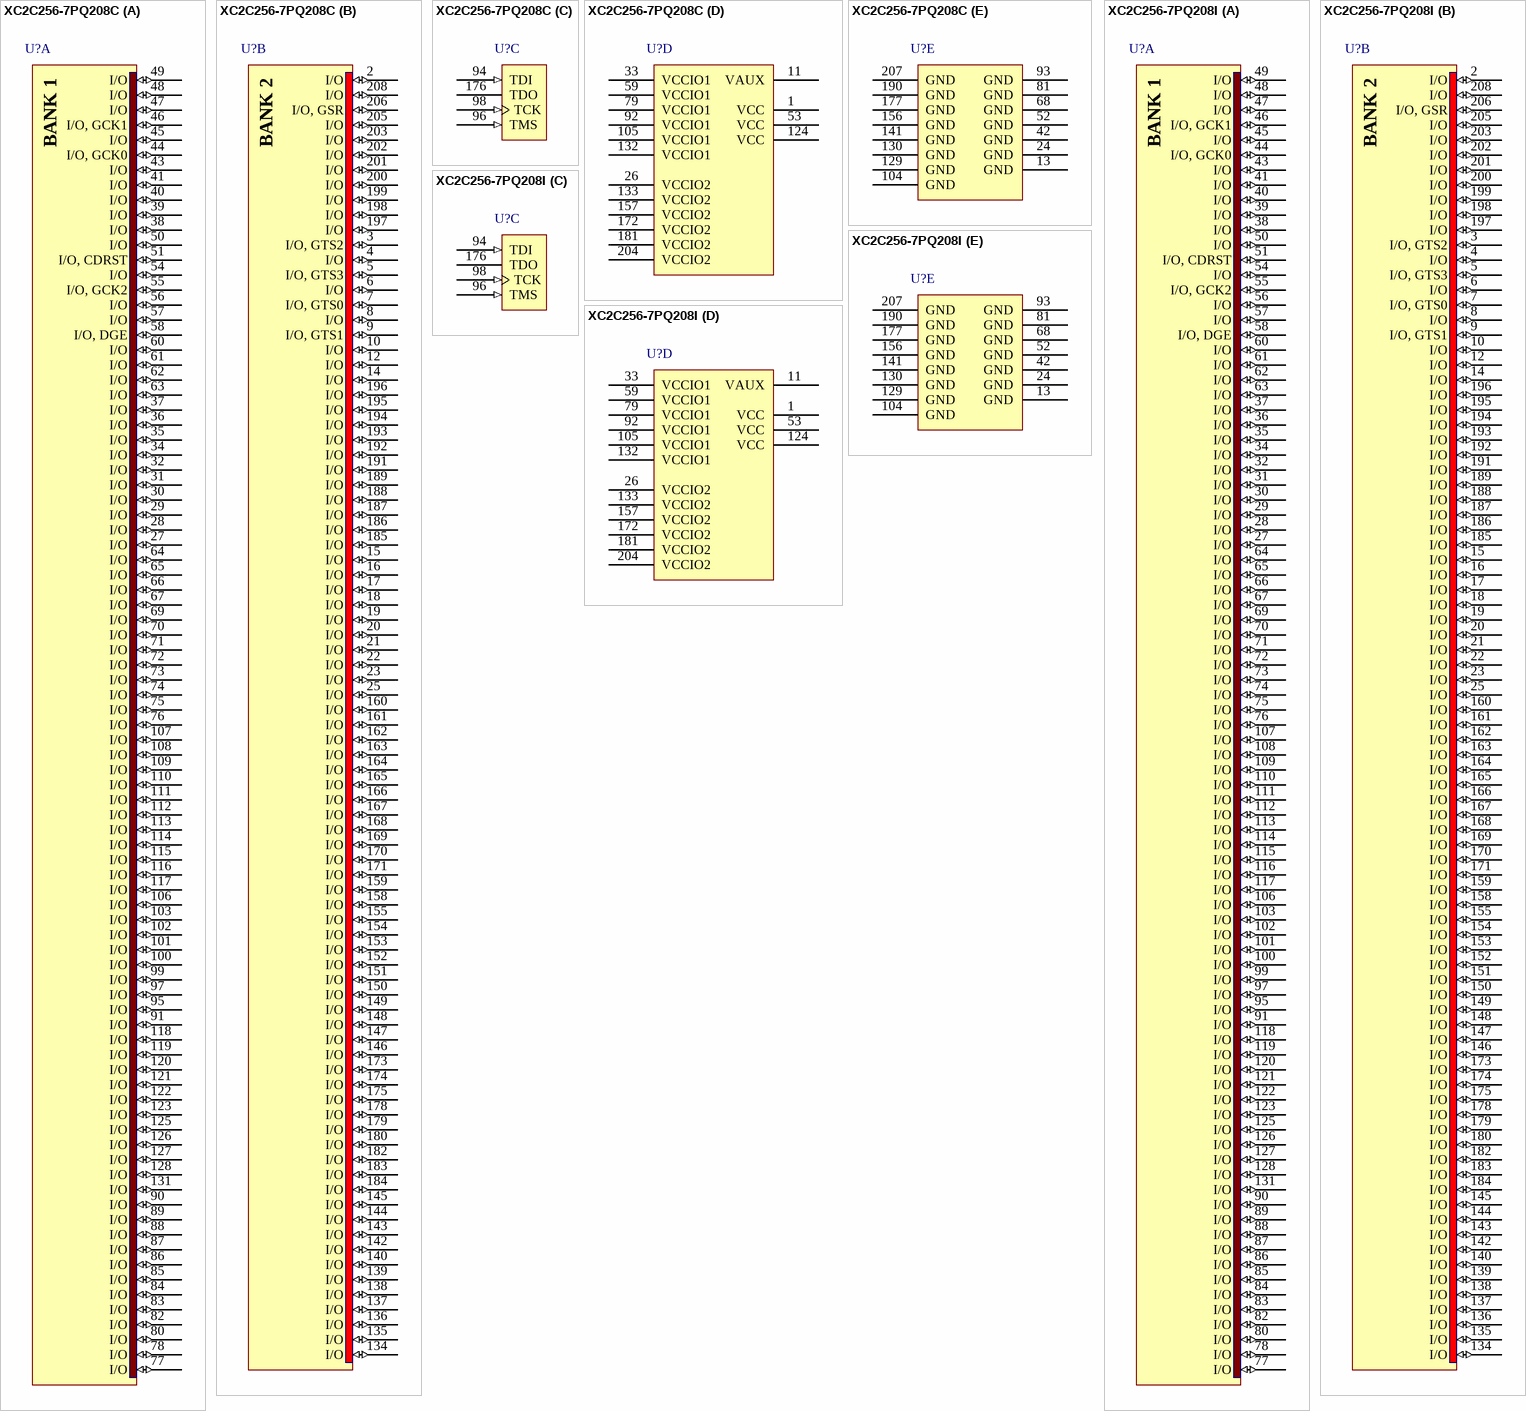
[diagram p32: symbols XC2C256-7PQ208C to XC2C256-7PQ208I]

## XC2C256-7PQ208C
designator U?
CoolRunner-II, 1.8V, 256 Macrocell CPLD, 208-Pin PQFP, Commercial Grade; Published: 23-Sep-2002; LatestRevisionDate: 13-Apr-2006; LatestRevisionNote: IPC-7351 Footprint Added.; DatasheetVersion: ver3.2, Mar-2007; PackageVersion: ver1.2, Jun-2004; PackageReference: PQ208; Publisher: Altium Limited; PackageDescription: 208-Pin Plastic Quad Flat Pack (PQ208); Code_JEDEC: MS-029-FA-1; ComponentLink1Description: Manufacturer Link; ComponentLink1URL: http://www.xilinx.com/products/silicon_solutions/cplds/coolrunner_series/coolrunner_ii_cplds/overview.htm; ComponentLink2Description: Datasheet; ComponentLink2URL: http://direct.xilinx.com/bvdocs/publications/ds094.pdf
footprint PQ208_N (Shrink QFP, 208-Leads, Body 28x28mm, Pitch 0.5mm, IPC Medium Density)
footprint PQ208_L (Shrink QFP, 208-Leads, Body 28x28mm, Pitch 0.5mm, IPC High Density)
footprint PQ208_M (Shrink QFP, 208-Leads, Body 28x28mm, Pitch 0.5mm, IPC Low Density)
3D model XC2C256-PQ208 (208-Pin Plastic Quad Flat Pack (PQ208))
signal-integrity model XC2C256_PQ208 (CoolRunner-II)
part A pins: 27 I/O (io), 28 I/O (io), 29 I/O (io), 30 I/O (io), 31 I/O (io), 32 I/O (io), 34 I/O (io), 35 I/O (io), 36 I/O (io), 37 I/O (io), 38 I/O (io), 39 I/O (io), 40 I/O (io), 41 I/O (io), 43 I/O (io), 44 I/O, GCK0 (io), 45 I/O (io), 46 I/O, GCK1 (io), 47 I/O (io), 48 I/O (io), 49 I/O (io), 50 I/O (io), 51 I/O, CDRST (io), 54 I/O (io), 55 I/O, GCK2 (io), 56 I/O (io), 57 I/O (io), 58 I/O, DGE (io), 60 I/O (io), 61 I/O (io), 62 I/O (io), 63 I/O (io), 64 I/O (io), 65 I/O (io), 66 I/O (io), 67 I/O (io), 69 I/O (io), 70 I/O (io), 71 I/O (io), 72 I/O (io), 73 I/O (io), 74 I/O (io), 75 I/O (io), 76 I/O (io), 77 I/O (io), 78 I/O (io), 80 I/O (io), 82 I/O (io), 83 I/O (io), 84 I/O (io), 85 I/O (io), 86 I/O (io), 87 I/O (io), 88 I/O (io), 89 I/O (io), 90 I/O (io), 91 I/O (io), 95 I/O (io), 97 I/O (io), 99 I/O (io), 100 I/O (io), 101 I/O (io), 102 I/O (io), 103 I/O (io), 106 I/O (io), 107 I/O (io), 108 I/O (io), 109 I/O (io), 110 I/O (io), 111 I/O (io), 112 I/O (io), 113 I/O (io), 114 I/O (io), 115 I/O (io), 116 I/O (io), 117 I/O (io), 118 I/O (io), 119 I/O (io), 120 I/O (io), 121 I/O (io), 122 I/O (io), 123 I/O (io), 125 I/O (io), 126 I/O (io), 127 I/O (io), 128 I/O (io), 131 I/O (io)
part B pins: 2 I/O (io), 3 I/O, GTS2 (io), 4 I/O (io), 5 I/O, GTS3 (io), 6 I/O (io), 7 I/O, GTS0 (io), 8 I/O (io), 9 I/O, GTS1 (io), 10 I/O (io), 12 I/O (io), 14 I/O (io), 15 I/O (io), 16 I/O (io), 17 I/O (io), 18 I/O (io), 19 I/O (io), 20 I/O (io), 21 I/O (io), 22 I/O (io), 23 I/O (io), 25 I/O (io), 134 I/O (io), 135 I/O (io), 136 I/O (io), 137 I/O (io), 138 I/O (io), 139 I/O (io), 140 I/O (io), 142 I/O (io), 143 I/O (io), 144 I/O (io), 145 I/O (io), 146 I/O (io), 147 I/O (io), 148 I/O (io), 149 I/O (io), 150 I/O (io), 151 I/O (io), 152 I/O (io), 153 I/O (io), 154 I/O (io), 155 I/O (io), 158 I/O (io), 159 I/O (io), 160 I/O (io), 161 I/O (io), 162 I/O (io), 163 I/O (io), 164 I/O (io), 165 I/O (io), 166 I/O (io), 167 I/O (io), 168 I/O (io), 169 I/O (io), 170 I/O (io), 171 I/O (io), 173 I/O (io), 174 I/O (io), 175 I/O (io), 178 I/O (io), 179 I/O (io), 180 I/O (io), 182 I/O (io), 183 I/O (io), 184 I/O (io), 185 I/O (io), 186 I/O (io), 187 I/O (io), 188 I/O (io), 189 I/O (io), 191 I/O (io), 192 I/O (io), 193 I/O (io), 194 I/O (io), 195 I/O (io), 196 I/O (io), 197 I/O (io), 198 I/O (io), 199 I/O (io), 200 I/O (io), 201 I/O (io), 202 I/O (io), 203 I/O (io), 205 I/O (io), 206 I/O, GSR (io), 208 I/O (io)
part C pins: 94 TDI (in), 96 TMS (in), 98 TCK (in), 176 TDO
part D pins: 1 VCC (power), 11 VAUX (power), 26 VCCIO2 (power), 33 VCCIO1 (power), 53 VCC (power), 59 VCCIO1 (power), 79 VCCIO1 (power), 92 VCCIO1 (power), 105 VCCIO1 (power), 124 VCC (power), 132 VCCIO1 (power), 133 VCCIO2 (power), 157 VCCIO2 (power), 172 VCCIO2 (power), 181 VCCIO2 (power), 204 VCCIO2 (power)
part E pins: 13 GND (power), 24 GND (power), 42 GND (power), 52 GND (power), 68 GND (power), 81 GND (power), 93 GND (power), 104 GND (power), 129 GND (power), 130 GND (power), 141 GND (power), 156 GND (power), 177 GND (power), 190 GND (power), 207 GND (power)
part A text: BANK 1
part B text: BANK 2

## XC2C256-7PQ208I
designator U?
CoolRunner-II, 1.8V, 256 Macrocell CPLD, 208-Pin PQFP, Industrial Grade; Published: 23-Sep-2002; LatestRevisionDate: 13-Apr-2006; LatestRevisionNote: IPC-7351 Footprint Added.; DatasheetVersion: ver3.2, Mar-2007; PackageVersion: ver1.2, Jun-2004; PackageReference: PQ208; Publisher: Altium Limited; PackageDescription: 208-Pin Plastic Quad Flat Pack (PQ208); Code_JEDEC: MS-029-FA-1; ComponentLink1Description: Manufacturer Link; ComponentLink1URL: http://www.xilinx.com/products/silicon_solutions/cplds/coolrunner_series/coolrunner_ii_cplds/overview.htm; ComponentLink2Description: Datasheet; ComponentLink2URL: http://direct.xilinx.com/bvdocs/publications/ds094.pdf
footprint PQ208_N (Shrink QFP, 208-Leads, Body 28x28mm, Pitch 0.5mm, IPC Medium Density)
footprint PQ208_L (Shrink QFP, 208-Leads, Body 28x28mm, Pitch 0.5mm, IPC High Density)
footprint PQ208_M (Shrink QFP, 208-Leads, Body 28x28mm, Pitch 0.5mm, IPC Low Density)
3D model XC2C256-PQ208 (208-Pin Plastic Quad Flat Pack (PQ208))
signal-integrity model XC2C256_PQ208 (CoolRunner-II)
part A pins: 27 I/O (io), 28 I/O (io), 29 I/O (io), 30 I/O (io), 31 I/O (io), 32 I/O (io), 34 I/O (io), 35 I/O (io), 36 I/O (io), 37 I/O (io), 38 I/O (io), 39 I/O (io), 40 I/O (io), 41 I/O (io), 43 I/O (io), 44 I/O, GCK0 (io), 45 I/O (io), 46 I/O, GCK1 (io), 47 I/O (io), 48 I/O (io), 49 I/O (io), 50 I/O (io), 51 I/O, CDRST (io), 54 I/O (io), 55 I/O, GCK2 (io), 56 I/O (io), 57 I/O (io), 58 I/O, DGE (io), 60 I/O (io), 61 I/O (io), 62 I/O (io), 63 I/O (io), 64 I/O (io), 65 I/O (io), 66 I/O (io), 67 I/O (io), 69 I/O (io), 70 I/O (io), 71 I/O (io), 72 I/O (io), 73 I/O (io), 74 I/O (io), 75 I/O (io), 76 I/O (io), 77 I/O (io), 78 I/O (io), 80 I/O (io), 82 I/O (io), 83 I/O (io), 84 I/O (io), 85 I/O (io), 86 I/O (io), 87 I/O (io), 88 I/O (io), 89 I/O (io), 90 I/O (io), 91 I/O (io), 95 I/O (io), 97 I/O (io), 99 I/O (io), 100 I/O (io), 101 I/O (io), 102 I/O (io), 103 I/O (io), 106 I/O (io), 107 I/O (io), 108 I/O (io), 109 I/O (io), 110 I/O (io), 111 I/O (io), 112 I/O (io), 113 I/O (io), 114 I/O (io), 115 I/O (io), 116 I/O (io), 117 I/O (io), 118 I/O (io), 119 I/O (io), 120 I/O (io), 121 I/O (io), 122 I/O (io), 123 I/O (io), 125 I/O (io), 126 I/O (io), 127 I/O (io), 128 I/O (io), 131 I/O (io)
part B pins: 2 I/O (io), 3 I/O, GTS2 (io), 4 I/O (io), 5 I/O, GTS3 (io), 6 I/O (io), 7 I/O, GTS0 (io), 8 I/O (io), 9 I/O, GTS1 (io), 10 I/O (io), 12 I/O (io), 14 I/O (io), 15 I/O (io), 16 I/O (io), 17 I/O (io), 18 I/O (io), 19 I/O (io), 20 I/O (io), 21 I/O (io), 22 I/O (io), 23 I/O (io), 25 I/O (io), 134 I/O (io), 135 I/O (io), 136 I/O (io), 137 I/O (io), 138 I/O (io), 139 I/O (io), 140 I/O (io), 142 I/O (io), 143 I/O (io), 144 I/O (io), 145 I/O (io), 146 I/O (io), 147 I/O (io), 148 I/O (io), 149 I/O (io), 150 I/O (io), 151 I/O (io), 152 I/O (io), 153 I/O (io), 154 I/O (io), 155 I/O (io), 158 I/O (io), 159 I/O (io), 160 I/O (io), 161 I/O (io), 162 I/O (io), 163 I/O (io), 164 I/O (io), 165 I/O (io), 166 I/O (io), 167 I/O (io), 168 I/O (io), 169 I/O (io), 170 I/O (io), 171 I/O (io), 173 I/O (io), 174 I/O (io), 175 I/O (io), 178 I/O (io), 179 I/O (io), 180 I/O (io), 182 I/O (io), 183 I/O (io), 184 I/O (io), 185 I/O (io), 186 I/O (io), 187 I/O (io), 188 I/O (io), 189 I/O (io), 191 I/O (io), 192 I/O (io), 193 I/O (io), 194 I/O (io), 195 I/O (io), 196 I/O (io), 197 I/O (io), 198 I/O (io), 199 I/O (io), 200 I/O (io), 201 I/O (io), 202 I/O (io), 203 I/O (io), 205 I/O (io), 206 I/O, GSR (io), 208 I/O (io)
part C pins: 94 TDI (in), 96 TMS (in), 98 TCK (in), 176 TDO
part D pins: 1 VCC (power), 11 VAUX (power), 26 VCCIO2 (power), 33 VCCIO1 (power), 53 VCC (power), 59 VCCIO1 (power), 79 VCCIO1 (power), 92 VCCIO1 (power), 105 VCCIO1 (power), 124 VCC (power), 132 VCCIO1 (power), 133 VCCIO2 (power), 157 VCCIO2 (power), 172 VCCIO2 (power), 181 VCCIO2 (power), 204 VCCIO2 (power)
part E pins: 13 GND (power), 24 GND (power), 42 GND (power), 52 GND (power), 68 GND (power), 81 GND (power), 93 GND (power), 104 GND (power), 129 GND (power), 130 GND (power), 141 GND (power), 156 GND (power), 177 GND (power), 190 GND (power), 207 GND (power)
part A text: BANK 1
part B text: BANK 2

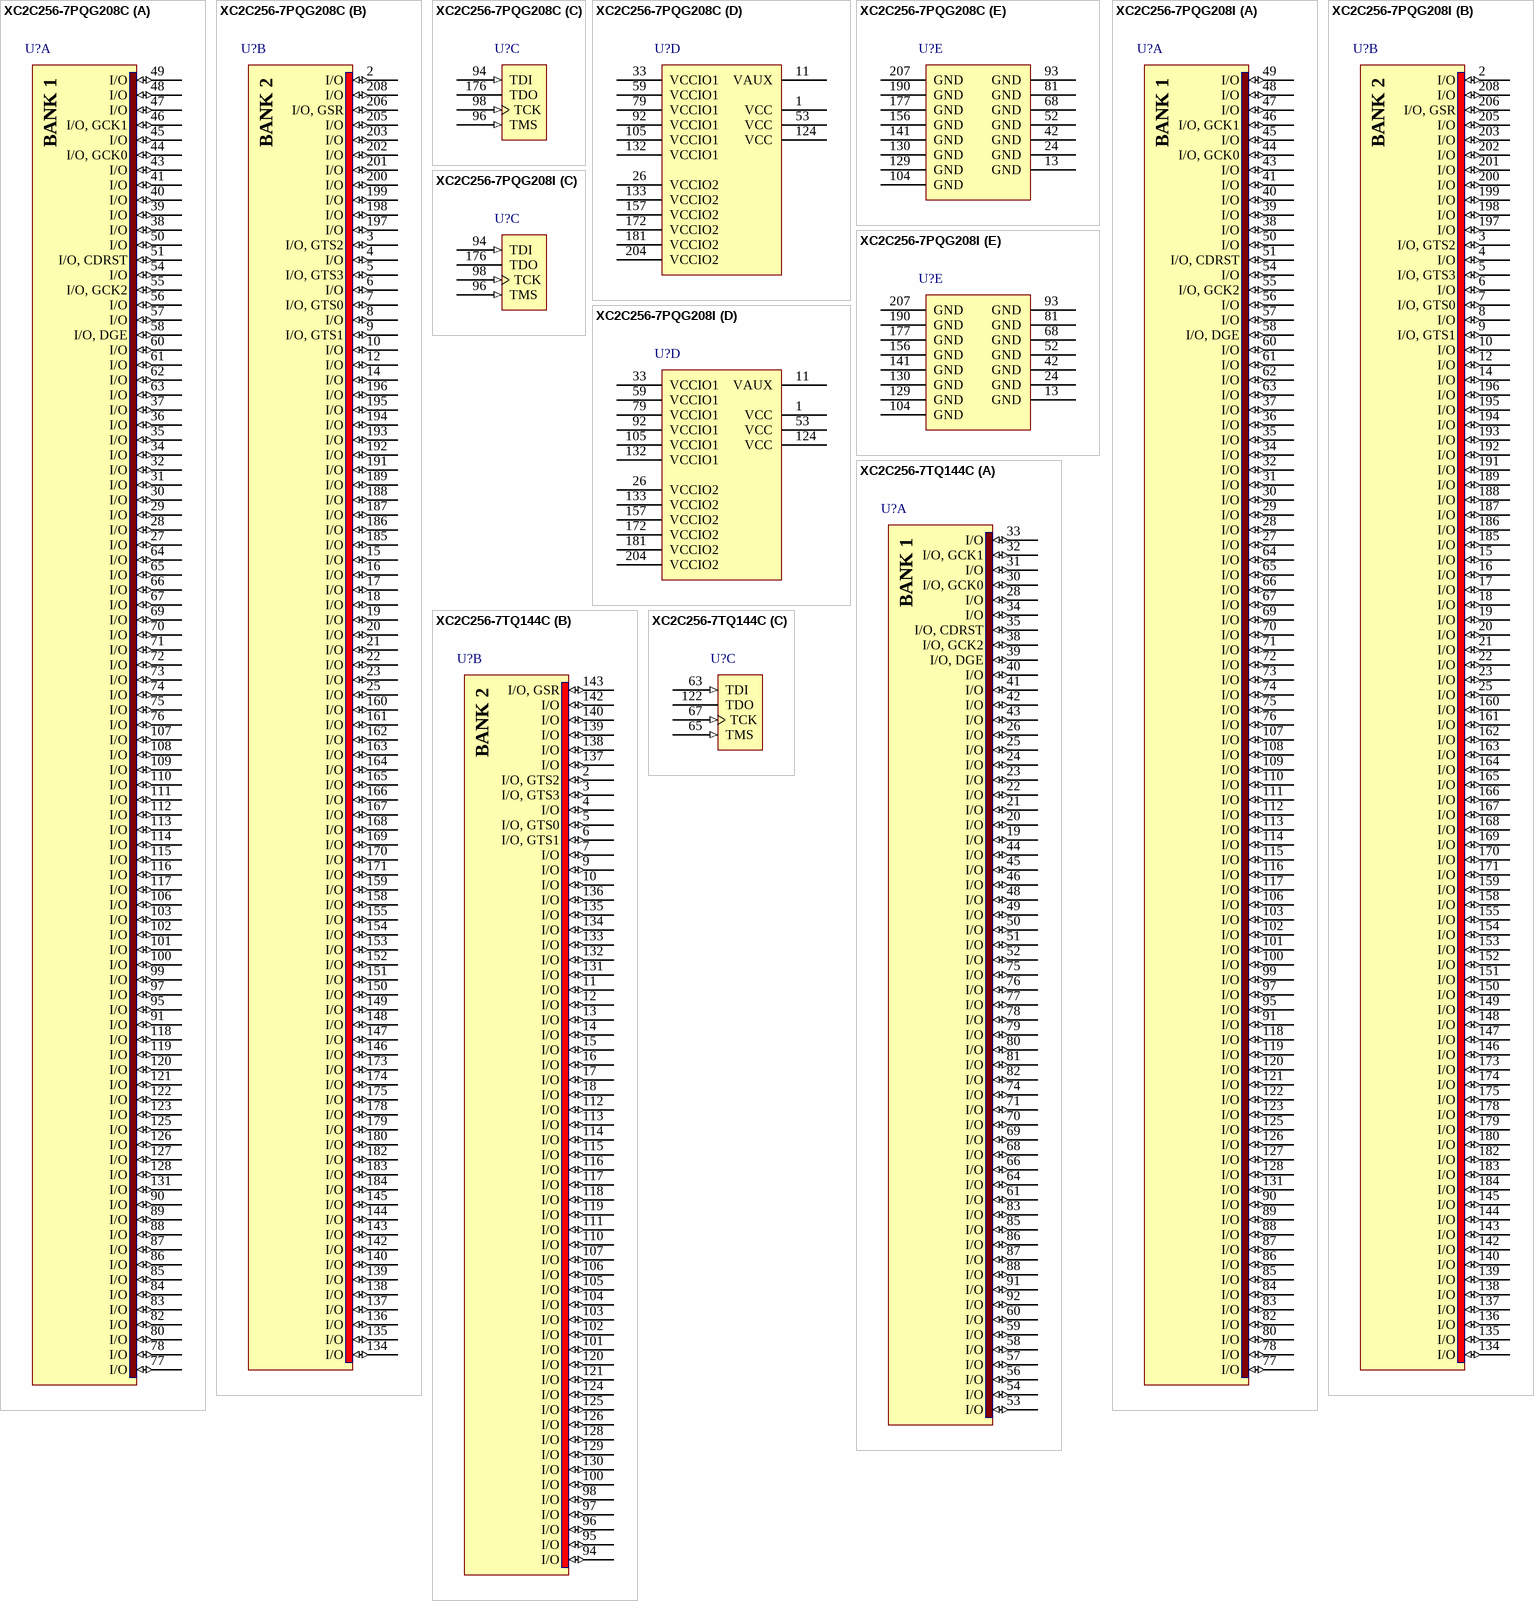
[diagram p33: symbols XC2C256-7PQG208C to XC2C256-7TQ144C]

## XC2C256-7PQG208C
designator U?
CoolRunner-II, 1.8V, 256 Macrocell CPLD, 208-Pin PQFP, Pb-Free, Commercial Grade; Published: 4-Mar-2005; LatestRevisionDate: 13-Apr-2006; LatestRevisionNote: IPC-7351 Footprint Added.; DatasheetVersion: ver3.2, Mar-2007; PackageVersion: ver1.2, Jun-2004; PackageReference: PQG208; Publisher: Altium Limited; PackageDescription: 208-Pin Plastic Quad Flat Pack (PQG208) - Pb-Free; Code_JEDEC: MS-029-FA-1; ComponentLink1Description: Manufacturer Link; ComponentLink1URL: http://www.xilinx.com/products/silicon_solutions/cplds/coolrunner_series/coolrunner_ii_cplds/overview.htm; ComponentLink2Description: Datasheet; ComponentLink2URL: http://direct.xilinx.com/bvdocs/publications/ds094.pdf
footprint PQG208_N (Shrink QFP, 208-Leads, Body 28x28mm, Pitch 0.5mm, IPC Medium Density)
footprint PQG208_L (Shrink QFP, 208-Leads, Body 28x28mm, Pitch 0.5mm, IPC High Density)
footprint PQG208_M (Shrink QFP, 208-Leads, Body 28x28mm, Pitch 0.5mm, IPC Low Density)
3D model XC2C256-PQ208 (208-Pin Plastic Quad Flat Pack (PQG208) - Pb-Free)
signal-integrity model XC2C256_PQ208 (CoolRunner-II)
part A pins: 27 I/O (io), 28 I/O (io), 29 I/O (io), 30 I/O (io), 31 I/O (io), 32 I/O (io), 34 I/O (io), 35 I/O (io), 36 I/O (io), 37 I/O (io), 38 I/O (io), 39 I/O (io), 40 I/O (io), 41 I/O (io), 43 I/O (io), 44 I/O, GCK0 (io), 45 I/O (io), 46 I/O, GCK1 (io), 47 I/O (io), 48 I/O (io), 49 I/O (io), 50 I/O (io), 51 I/O, CDRST (io), 54 I/O (io), 55 I/O, GCK2 (io), 56 I/O (io), 57 I/O (io), 58 I/O, DGE (io), 60 I/O (io), 61 I/O (io), 62 I/O (io), 63 I/O (io), 64 I/O (io), 65 I/O (io), 66 I/O (io), 67 I/O (io), 69 I/O (io), 70 I/O (io), 71 I/O (io), 72 I/O (io), 73 I/O (io), 74 I/O (io), 75 I/O (io), 76 I/O (io), 77 I/O (io), 78 I/O (io), 80 I/O (io), 82 I/O (io), 83 I/O (io), 84 I/O (io), 85 I/O (io), 86 I/O (io), 87 I/O (io), 88 I/O (io), 89 I/O (io), 90 I/O (io), 91 I/O (io), 95 I/O (io), 97 I/O (io), 99 I/O (io), 100 I/O (io), 101 I/O (io), 102 I/O (io), 103 I/O (io), 106 I/O (io), 107 I/O (io), 108 I/O (io), 109 I/O (io), 110 I/O (io), 111 I/O (io), 112 I/O (io), 113 I/O (io), 114 I/O (io), 115 I/O (io), 116 I/O (io), 117 I/O (io), 118 I/O (io), 119 I/O (io), 120 I/O (io), 121 I/O (io), 122 I/O (io), 123 I/O (io), 125 I/O (io), 126 I/O (io), 127 I/O (io), 128 I/O (io), 131 I/O (io)
part B pins: 2 I/O (io), 3 I/O, GTS2 (io), 4 I/O (io), 5 I/O, GTS3 (io), 6 I/O (io), 7 I/O, GTS0 (io), 8 I/O (io), 9 I/O, GTS1 (io), 10 I/O (io), 12 I/O (io), 14 I/O (io), 15 I/O (io), 16 I/O (io), 17 I/O (io), 18 I/O (io), 19 I/O (io), 20 I/O (io), 21 I/O (io), 22 I/O (io), 23 I/O (io), 25 I/O (io), 134 I/O (io), 135 I/O (io), 136 I/O (io), 137 I/O (io), 138 I/O (io), 139 I/O (io), 140 I/O (io), 142 I/O (io), 143 I/O (io), 144 I/O (io), 145 I/O (io), 146 I/O (io), 147 I/O (io), 148 I/O (io), 149 I/O (io), 150 I/O (io), 151 I/O (io), 152 I/O (io), 153 I/O (io), 154 I/O (io), 155 I/O (io), 158 I/O (io), 159 I/O (io), 160 I/O (io), 161 I/O (io), 162 I/O (io), 163 I/O (io), 164 I/O (io), 165 I/O (io), 166 I/O (io), 167 I/O (io), 168 I/O (io), 169 I/O (io), 170 I/O (io), 171 I/O (io), 173 I/O (io), 174 I/O (io), 175 I/O (io), 178 I/O (io), 179 I/O (io), 180 I/O (io), 182 I/O (io), 183 I/O (io), 184 I/O (io), 185 I/O (io), 186 I/O (io), 187 I/O (io), 188 I/O (io), 189 I/O (io), 191 I/O (io), 192 I/O (io), 193 I/O (io), 194 I/O (io), 195 I/O (io), 196 I/O (io), 197 I/O (io), 198 I/O (io), 199 I/O (io), 200 I/O (io), 201 I/O (io), 202 I/O (io), 203 I/O (io), 205 I/O (io), 206 I/O, GSR (io), 208 I/O (io)
part C pins: 94 TDI (in), 96 TMS (in), 98 TCK (in), 176 TDO
part D pins: 1 VCC (power), 11 VAUX (power), 26 VCCIO2 (power), 33 VCCIO1 (power), 53 VCC (power), 59 VCCIO1 (power), 79 VCCIO1 (power), 92 VCCIO1 (power), 105 VCCIO1 (power), 124 VCC (power), 132 VCCIO1 (power), 133 VCCIO2 (power), 157 VCCIO2 (power), 172 VCCIO2 (power), 181 VCCIO2 (power), 204 VCCIO2 (power)
part E pins: 13 GND (power), 24 GND (power), 42 GND (power), 52 GND (power), 68 GND (power), 81 GND (power), 93 GND (power), 104 GND (power), 129 GND (power), 130 GND (power), 141 GND (power), 156 GND (power), 177 GND (power), 190 GND (power), 207 GND (power)
part A text: BANK 1
part B text: BANK 2

## XC2C256-7PQG208I
designator U?
CoolRunner-II, 1.8V, 256 Macrocell CPLD, 208-Pin PQFP, Pb-Free, Industrial Grade; Published: 4-Mar-2005; LatestRevisionDate: 13-Apr-2006; LatestRevisionNote: IPC-7351 Footprint Added.; DatasheetVersion: ver3.2, Mar-2007; PackageVersion: ver1.2, Jun-2004; PackageReference: PQG208; Publisher: Altium Limited; PackageDescription: 208-Pin Plastic Quad Flat Pack (PQG208) - Pb-Free; Code_JEDEC: MS-029-FA-1; ComponentLink1Description: Manufacturer Link; ComponentLink1URL: http://www.xilinx.com/products/silicon_solutions/cplds/coolrunner_series/coolrunner_ii_cplds/overview.htm; ComponentLink2Description: Datasheet; ComponentLink2URL: http://direct.xilinx.com/bvdocs/publications/ds094.pdf
footprint PQG208_N (Shrink QFP, 208-Leads, Body 28x28mm, Pitch 0.5mm, IPC Medium Density)
footprint PQG208_L (Shrink QFP, 208-Leads, Body 28x28mm, Pitch 0.5mm, IPC High Density)
footprint PQG208_M (Shrink QFP, 208-Leads, Body 28x28mm, Pitch 0.5mm, IPC Low Density)
3D model XC2C256-PQ208 (208-Pin Plastic Quad Flat Pack (PQG208) - Pb-Free)
signal-integrity model XC2C256_PQ208 (CoolRunner-II)
part A pins: 27 I/O (io), 28 I/O (io), 29 I/O (io), 30 I/O (io), 31 I/O (io), 32 I/O (io), 34 I/O (io), 35 I/O (io), 36 I/O (io), 37 I/O (io), 38 I/O (io), 39 I/O (io), 40 I/O (io), 41 I/O (io), 43 I/O (io), 44 I/O, GCK0 (io), 45 I/O (io), 46 I/O, GCK1 (io), 47 I/O (io), 48 I/O (io), 49 I/O (io), 50 I/O (io), 51 I/O, CDRST (io), 54 I/O (io), 55 I/O, GCK2 (io), 56 I/O (io), 57 I/O (io), 58 I/O, DGE (io), 60 I/O (io), 61 I/O (io), 62 I/O (io), 63 I/O (io), 64 I/O (io), 65 I/O (io), 66 I/O (io), 67 I/O (io), 69 I/O (io), 70 I/O (io), 71 I/O (io), 72 I/O (io), 73 I/O (io), 74 I/O (io), 75 I/O (io), 76 I/O (io), 77 I/O (io), 78 I/O (io), 80 I/O (io), 82 I/O (io), 83 I/O (io), 84 I/O (io), 85 I/O (io), 86 I/O (io), 87 I/O (io), 88 I/O (io), 89 I/O (io), 90 I/O (io), 91 I/O (io), 95 I/O (io), 97 I/O (io), 99 I/O (io), 100 I/O (io), 101 I/O (io), 102 I/O (io), 103 I/O (io), 106 I/O (io), 107 I/O (io), 108 I/O (io), 109 I/O (io), 110 I/O (io), 111 I/O (io), 112 I/O (io), 113 I/O (io), 114 I/O (io), 115 I/O (io), 116 I/O (io), 117 I/O (io), 118 I/O (io), 119 I/O (io), 120 I/O (io), 121 I/O (io), 122 I/O (io), 123 I/O (io), 125 I/O (io), 126 I/O (io), 127 I/O (io), 128 I/O (io), 131 I/O (io)
part B pins: 2 I/O (io), 3 I/O, GTS2 (io), 4 I/O (io), 5 I/O, GTS3 (io), 6 I/O (io), 7 I/O, GTS0 (io), 8 I/O (io), 9 I/O, GTS1 (io), 10 I/O (io), 12 I/O (io), 14 I/O (io), 15 I/O (io), 16 I/O (io), 17 I/O (io), 18 I/O (io), 19 I/O (io), 20 I/O (io), 21 I/O (io), 22 I/O (io), 23 I/O (io), 25 I/O (io), 134 I/O (io), 135 I/O (io), 136 I/O (io), 137 I/O (io), 138 I/O (io), 139 I/O (io), 140 I/O (io), 142 I/O (io), 143 I/O (io), 144 I/O (io), 145 I/O (io), 146 I/O (io), 147 I/O (io), 148 I/O (io), 149 I/O (io), 150 I/O (io), 151 I/O (io), 152 I/O (io), 153 I/O (io), 154 I/O (io), 155 I/O (io), 158 I/O (io), 159 I/O (io), 160 I/O (io), 161 I/O (io), 162 I/O (io), 163 I/O (io), 164 I/O (io), 165 I/O (io), 166 I/O (io), 167 I/O (io), 168 I/O (io), 169 I/O (io), 170 I/O (io), 171 I/O (io), 173 I/O (io), 174 I/O (io), 175 I/O (io), 178 I/O (io), 179 I/O (io), 180 I/O (io), 182 I/O (io), 183 I/O (io), 184 I/O (io), 185 I/O (io), 186 I/O (io), 187 I/O (io), 188 I/O (io), 189 I/O (io), 191 I/O (io), 192 I/O (io), 193 I/O (io), 194 I/O (io), 195 I/O (io), 196 I/O (io), 197 I/O (io), 198 I/O (io), 199 I/O (io), 200 I/O (io), 201 I/O (io), 202 I/O (io), 203 I/O (io), 205 I/O (io), 206 I/O, GSR (io), 208 I/O (io)
part C pins: 94 TDI (in), 96 TMS (in), 98 TCK (in), 176 TDO
part D pins: 1 VCC (power), 11 VAUX (power), 26 VCCIO2 (power), 33 VCCIO1 (power), 53 VCC (power), 59 VCCIO1 (power), 79 VCCIO1 (power), 92 VCCIO1 (power), 105 VCCIO1 (power), 124 VCC (power), 132 VCCIO1 (power), 133 VCCIO2 (power), 157 VCCIO2 (power), 172 VCCIO2 (power), 181 VCCIO2 (power), 204 VCCIO2 (power)
part E pins: 13 GND (power), 24 GND (power), 42 GND (power), 52 GND (power), 68 GND (power), 81 GND (power), 93 GND (power), 104 GND (power), 129 GND (power), 130 GND (power), 141 GND (power), 156 GND (power), 177 GND (power), 190 GND (power), 207 GND (power)
part A text: BANK 1
part B text: BANK 2

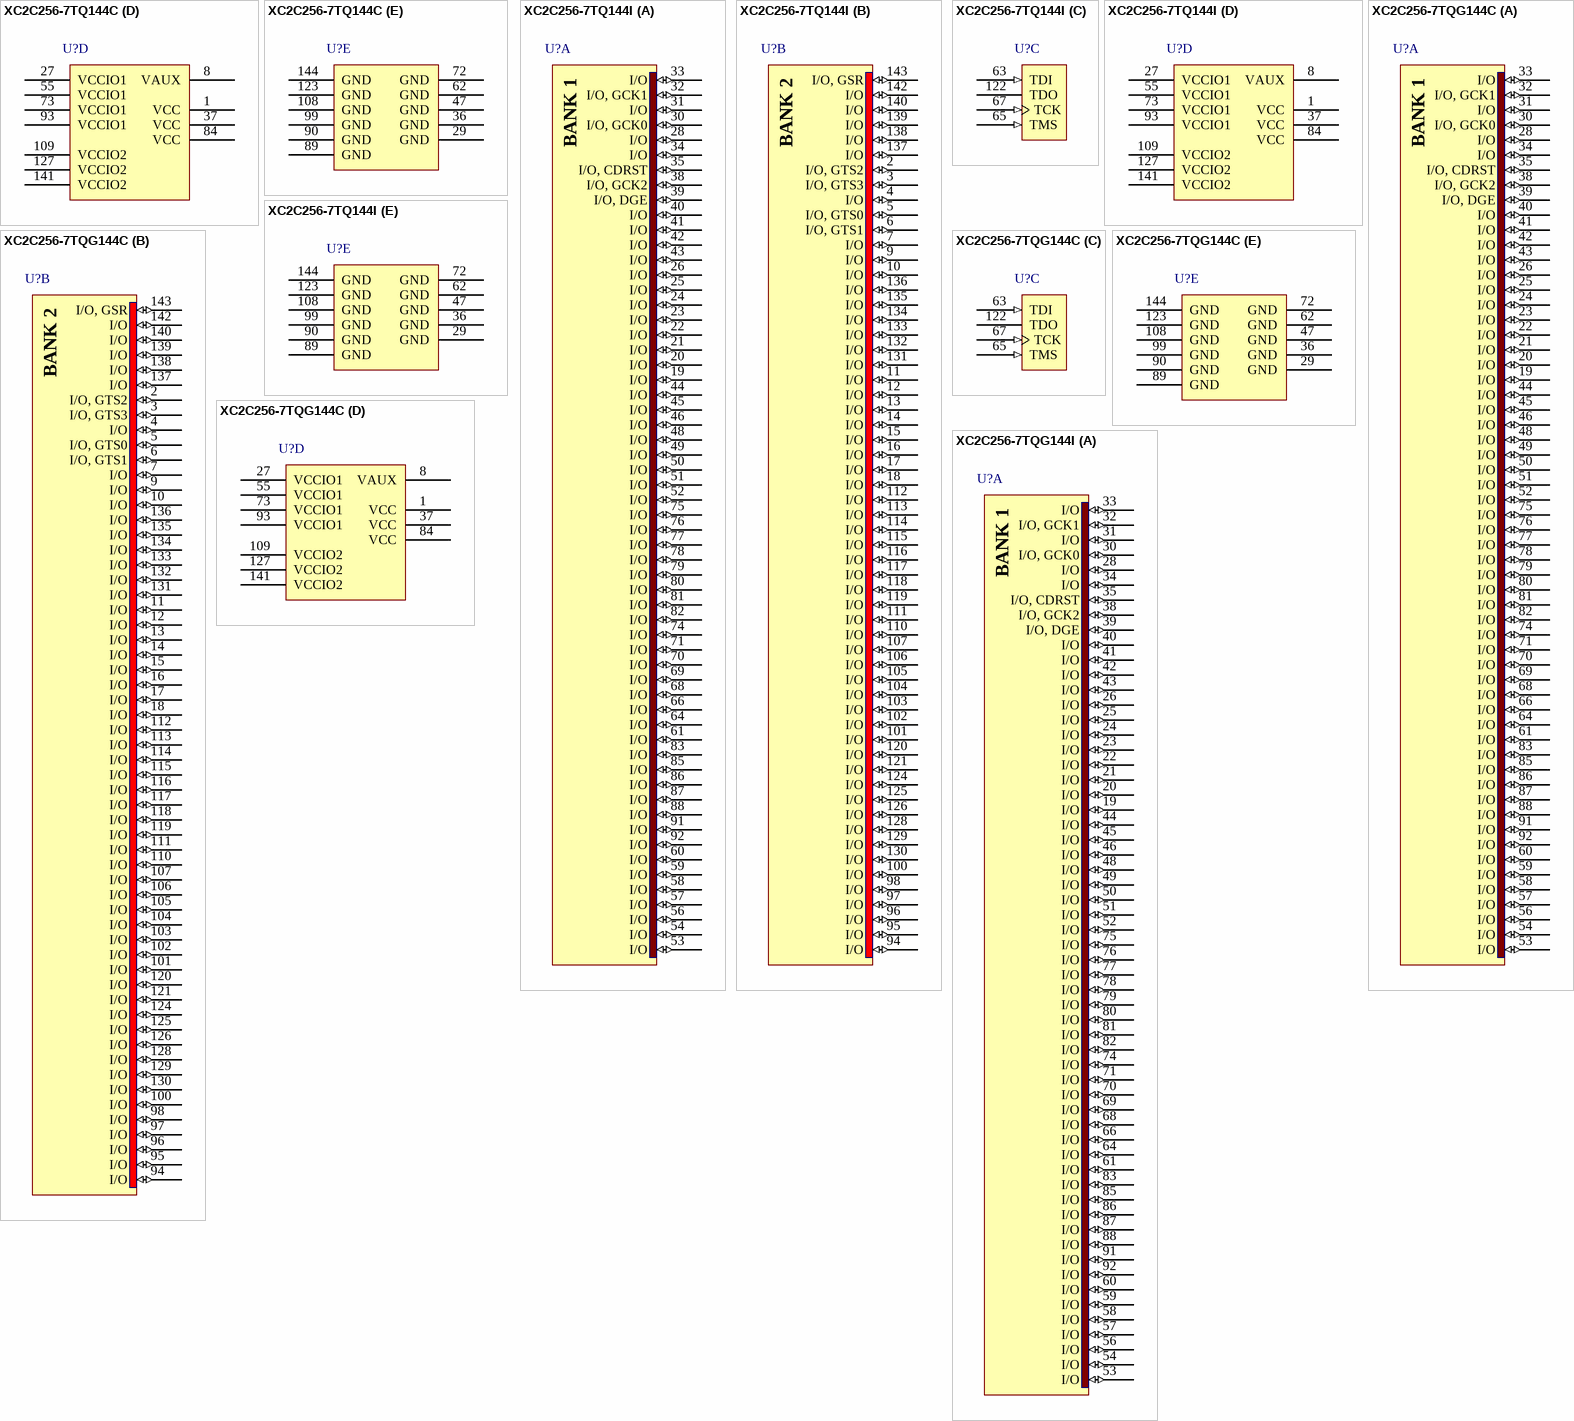
[diagram p34: symbols XC2C256-7TQ144C to XC2C256-7TQG144I]

## XC2C256-7TQ144C
designator U?
CoolRunner-II, 1.8V, 256 Macrocell CPLD, 144-Pin TQFP, Commercial Grade; Published: 23-Sep-2002; LatestRevisionDate: 13-Apr-2006; LatestRevisionNote: IPC-7351 Footprint Added.; DatasheetVersion: ver3.2, Mar-2007; PackageVersion: ver1.2, Jun-2004; PackageReference: TQ144; Publisher: Altium Limited; PackageDescription: 144-Pin Thin Quad Flat Pack (TQ144); Code_JEDEC: MS-026-BFB; ComponentLink1Description: Manufacturer Link; ComponentLink1URL: http://www.xilinx.com/products/silicon_solutions/cplds/coolrunner_series/coolrunner_ii_cplds/overview.htm; ComponentLink2Description: Datasheet; ComponentLink2URL: http://direct.xilinx.com/bvdocs/publications/ds094.pdf
footprint TQ144_N (Thin QFP, 144-Leads, Body 20x20mm, Pitch 0.5mm, IPC Medium Density)
footprint TQ144_L (Thin QFP, 144-Leads, Body 20x20mm, Pitch 0.5mm, IPC High Density)
footprint TQ144_M (Thin QFP, 144-Leads, Body 20x20mm, Pitch 0.5mm, IPC Low Density)
3D model XC2C256-TQ144 (144-Pin Thin Quad Flat Pack (TQ144))
signal-integrity model XC2C256_TQ144 (CoolRunner-II)
part A pins: 19 I/O (io), 20 I/O (io), 21 I/O (io), 22 I/O (io), 23 I/O (io), 24 I/O (io), 25 I/O (io), 26 I/O (io), 28 I/O (io), 30 I/O, GCK0 (io), 31 I/O (io), 32 I/O, GCK1 (io), 33 I/O (io), 34 I/O (io), 35 I/O, CDRST (io), 38 I/O, GCK2 (io), 39 I/O, DGE (io), 40 I/O (io), 41 I/O (io), 42 I/O (io), 43 I/O (io), 44 I/O (io), 45 I/O (io), 46 I/O (io), 48 I/O (io), 49 I/O (io), 50 I/O (io), 51 I/O (io), 52 I/O (io), 53 I/O (io), 54 I/O (io), 56 I/O (io), 57 I/O (io), 58 I/O (io), 59 I/O (io), 60 I/O (io), 61 I/O (io), 64 I/O (io), 66 I/O (io), 68 I/O (io), 69 I/O (io), 70 I/O (io), 71 I/O (io), 74 I/O (io), 75 I/O (io), 76 I/O (io), 77 I/O (io), 78 I/O (io), 79 I/O (io), 80 I/O (io), 81 I/O (io), 82 I/O (io), 83 I/O (io), 85 I/O (io), 86 I/O (io), 87 I/O (io), 88 I/O (io), 91 I/O (io), 92 I/O (io)
part B pins: 2 I/O, GTS2 (io), 3 I/O, GTS3 (io), 4 I/O (io), 5 I/O, GTS0 (io), 6 I/O, GTS1 (io), 7 I/O (io), 9 I/O (io), 10 I/O (io), 11 I/O (io), 12 I/O (io), 13 I/O (io), 14 I/O (io), 15 I/O (io), 16 I/O (io), 17 I/O (io), 18 I/O (io), 94 I/O (io), 95 I/O (io), 96 I/O (io), 97 I/O (io), 98 I/O (io), 100 I/O (io), 101 I/O (io), 102 I/O (io), 103 I/O (io), 104 I/O (io), 105 I/O (io), 106 I/O (io), 107 I/O (io), 110 I/O (io), 111 I/O (io), 112 I/O (io), 113 I/O (io), 114 I/O (io), 115 I/O (io), 116 I/O (io), 117 I/O (io), 118 I/O (io), 119 I/O (io), 120 I/O (io), 121 I/O (io), 124 I/O (io), 125 I/O (io), 126 I/O (io), 128 I/O (io), 129 I/O (io), 130 I/O (io), 131 I/O (io), 132 I/O (io), 133 I/O (io), 134 I/O (io), 135 I/O (io), 136 I/O (io), 137 I/O (io), 138 I/O (io), 139 I/O (io), 140 I/O (io), 142 I/O (io), 143 I/O, GSR (io)
part C pins: 63 TDI (in), 65 TMS (in), 67 TCK (in), 122 TDO
part D pins: 1 VCC (power), 8 VAUX (power), 27 VCCIO1 (power), 37 VCC (power), 55 VCCIO1 (power), 73 VCCIO1 (power), 84 VCC (power), 93 VCCIO1 (power), 109 VCCIO2 (power), 127 VCCIO2 (power), 141 VCCIO2 (power)
part E pins: 29 GND (power), 36 GND (power), 47 GND (power), 62 GND (power), 72 GND (power), 89 GND (power), 90 GND (power), 99 GND (power), 108 GND (power), 123 GND (power), 144 GND (power)
part A text: BANK 1
part B text: BANK 2

## XC2C256-7TQ144I
designator U?
CoolRunner-II, 1.8V, 256 Macrocell CPLD, 144-Pin TQFP, Industrial Grade; Published: 23-Sep-2002; LatestRevisionDate: 13-Apr-2006; LatestRevisionNote: IPC-7351 Footprint Added.; DatasheetVersion: ver3.2, Mar-2007; PackageVersion: ver1.2, Jun-2004; PackageReference: TQ144; Publisher: Altium Limited; PackageDescription: 144-Pin Thin Quad Flat Pack (TQ144); Code_JEDEC: MS-026-BFB; ComponentLink1Description: Manufacturer Link; ComponentLink1URL: http://www.xilinx.com/products/silicon_solutions/cplds/coolrunner_series/coolrunner_ii_cplds/overview.htm; ComponentLink2Description: Datasheet; ComponentLink2URL: http://direct.xilinx.com/bvdocs/publications/ds094.pdf
footprint TQ144_N (Thin QFP, 144-Leads, Body 20x20mm, Pitch 0.5mm, IPC Medium Density)
footprint TQ144_L (Thin QFP, 144-Leads, Body 20x20mm, Pitch 0.5mm, IPC High Density)
footprint TQ144_M (Thin QFP, 144-Leads, Body 20x20mm, Pitch 0.5mm, IPC Low Density)
3D model XC2C256-TQ144 (144-Pin Thin Quad Flat Pack (TQ144))
signal-integrity model XC2C256_TQ144 (CoolRunner-II)
part A pins: 19 I/O (io), 20 I/O (io), 21 I/O (io), 22 I/O (io), 23 I/O (io), 24 I/O (io), 25 I/O (io), 26 I/O (io), 28 I/O (io), 30 I/O, GCK0 (io), 31 I/O (io), 32 I/O, GCK1 (io), 33 I/O (io), 34 I/O (io), 35 I/O, CDRST (io), 38 I/O, GCK2 (io), 39 I/O, DGE (io), 40 I/O (io), 41 I/O (io), 42 I/O (io), 43 I/O (io), 44 I/O (io), 45 I/O (io), 46 I/O (io), 48 I/O (io), 49 I/O (io), 50 I/O (io), 51 I/O (io), 52 I/O (io), 53 I/O (io), 54 I/O (io), 56 I/O (io), 57 I/O (io), 58 I/O (io), 59 I/O (io), 60 I/O (io), 61 I/O (io), 64 I/O (io), 66 I/O (io), 68 I/O (io), 69 I/O (io), 70 I/O (io), 71 I/O (io), 74 I/O (io), 75 I/O (io), 76 I/O (io), 77 I/O (io), 78 I/O (io), 79 I/O (io), 80 I/O (io), 81 I/O (io), 82 I/O (io), 83 I/O (io), 85 I/O (io), 86 I/O (io), 87 I/O (io), 88 I/O (io), 91 I/O (io), 92 I/O (io)
part B pins: 2 I/O, GTS2 (io), 3 I/O, GTS3 (io), 4 I/O (io), 5 I/O, GTS0 (io), 6 I/O, GTS1 (io), 7 I/O (io), 9 I/O (io), 10 I/O (io), 11 I/O (io), 12 I/O (io), 13 I/O (io), 14 I/O (io), 15 I/O (io), 16 I/O (io), 17 I/O (io), 18 I/O (io), 94 I/O (io), 95 I/O (io), 96 I/O (io), 97 I/O (io), 98 I/O (io), 100 I/O (io), 101 I/O (io), 102 I/O (io), 103 I/O (io), 104 I/O (io), 105 I/O (io), 106 I/O (io), 107 I/O (io), 110 I/O (io), 111 I/O (io), 112 I/O (io), 113 I/O (io), 114 I/O (io), 115 I/O (io), 116 I/O (io), 117 I/O (io), 118 I/O (io), 119 I/O (io), 120 I/O (io), 121 I/O (io), 124 I/O (io), 125 I/O (io), 126 I/O (io), 128 I/O (io), 129 I/O (io), 130 I/O (io), 131 I/O (io), 132 I/O (io), 133 I/O (io), 134 I/O (io), 135 I/O (io), 136 I/O (io), 137 I/O (io), 138 I/O (io), 139 I/O (io), 140 I/O (io), 142 I/O (io), 143 I/O, GSR (io)
part C pins: 63 TDI (in), 65 TMS (in), 67 TCK (in), 122 TDO
part D pins: 1 VCC (power), 8 VAUX (power), 27 VCCIO1 (power), 37 VCC (power), 55 VCCIO1 (power), 73 VCCIO1 (power), 84 VCC (power), 93 VCCIO1 (power), 109 VCCIO2 (power), 127 VCCIO2 (power), 141 VCCIO2 (power)
part E pins: 29 GND (power), 36 GND (power), 47 GND (power), 62 GND (power), 72 GND (power), 89 GND (power), 90 GND (power), 99 GND (power), 108 GND (power), 123 GND (power), 144 GND (power)
part A text: BANK 1
part B text: BANK 2

## XC2C256-7TQG144C
designator U?
CoolRunner-II, 1.8V, 256 Macrocell CPLD, 144-Pin TQFP, Pb-Free, Commercial Grade; Published: 4-Mar-2005; LatestRevisionDate: 13-Apr-2006; LatestRevisionNote: IPC-7351 Footprint Added.; DatasheetVersion: ver3.2, Mar-2007; PackageVersion: ver1.2, Jun-2004; PackageReference: TQG144; Publisher: Altium Limited; PackageDescription: 144-Pin Thin Quad Flat Pack (TQG144) - Pb-Free; Code_JEDEC: MS-026-BFB; ComponentLink1Description: Manufacturer Link; ComponentLink1URL: http://www.xilinx.com/products/silicon_solutions/cplds/coolrunner_series/coolrunner_ii_cplds/overview.htm; ComponentLink2Description: Datasheet; ComponentLink2URL: http://direct.xilinx.com/bvdocs/publications/ds094.pdf
footprint TQG144_N (Thin QFP, 144-Leads, Body 20x20mm, Pitch 0.5mm, IPC Medium Density)
footprint TQG144_L (Thin QFP, 144-Leads, Body 20x20mm, Pitch 0.5mm, IPC High Density)
footprint TQG144_M (Thin QFP, 144-Leads, Body 20x20mm, Pitch 0.5mm, IPC Low Density)
3D model XC2C256-TQ144 (144-Pin Thin Quad Flat Pack (TQG144) - Pb-Free)
signal-integrity model XC2C256_TQ144 (CoolRunner-II)
part A pins: 19 I/O (io), 20 I/O (io), 21 I/O (io), 22 I/O (io), 23 I/O (io), 24 I/O (io), 25 I/O (io), 26 I/O (io), 28 I/O (io), 30 I/O, GCK0 (io), 31 I/O (io), 32 I/O, GCK1 (io), 33 I/O (io), 34 I/O (io), 35 I/O, CDRST (io), 38 I/O, GCK2 (io), 39 I/O, DGE (io), 40 I/O (io), 41 I/O (io), 42 I/O (io), 43 I/O (io), 44 I/O (io), 45 I/O (io), 46 I/O (io), 48 I/O (io), 49 I/O (io), 50 I/O (io), 51 I/O (io), 52 I/O (io), 53 I/O (io), 54 I/O (io), 56 I/O (io), 57 I/O (io), 58 I/O (io), 59 I/O (io), 60 I/O (io), 61 I/O (io), 64 I/O (io), 66 I/O (io), 68 I/O (io), 69 I/O (io), 70 I/O (io), 71 I/O (io), 74 I/O (io), 75 I/O (io), 76 I/O (io), 77 I/O (io), 78 I/O (io), 79 I/O (io), 80 I/O (io), 81 I/O (io), 82 I/O (io), 83 I/O (io), 85 I/O (io), 86 I/O (io), 87 I/O (io), 88 I/O (io), 91 I/O (io), 92 I/O (io)
part B pins: 2 I/O, GTS2 (io), 3 I/O, GTS3 (io), 4 I/O (io), 5 I/O, GTS0 (io), 6 I/O, GTS1 (io), 7 I/O (io), 9 I/O (io), 10 I/O (io), 11 I/O (io), 12 I/O (io), 13 I/O (io), 14 I/O (io), 15 I/O (io), 16 I/O (io), 17 I/O (io), 18 I/O (io), 94 I/O (io), 95 I/O (io), 96 I/O (io), 97 I/O (io), 98 I/O (io), 100 I/O (io), 101 I/O (io), 102 I/O (io), 103 I/O (io), 104 I/O (io), 105 I/O (io), 106 I/O (io), 107 I/O (io), 110 I/O (io), 111 I/O (io), 112 I/O (io), 113 I/O (io), 114 I/O (io), 115 I/O (io), 116 I/O (io), 117 I/O (io), 118 I/O (io), 119 I/O (io), 120 I/O (io), 121 I/O (io), 124 I/O (io), 125 I/O (io), 126 I/O (io), 128 I/O (io), 129 I/O (io), 130 I/O (io), 131 I/O (io), 132 I/O (io), 133 I/O (io), 134 I/O (io), 135 I/O (io), 136 I/O (io), 137 I/O (io), 138 I/O (io), 139 I/O (io), 140 I/O (io), 142 I/O (io), 143 I/O, GSR (io)
part C pins: 63 TDI (in), 65 TMS (in), 67 TCK (in), 122 TDO
part D pins: 1 VCC (power), 8 VAUX (power), 27 VCCIO1 (power), 37 VCC (power), 55 VCCIO1 (power), 73 VCCIO1 (power), 84 VCC (power), 93 VCCIO1 (power), 109 VCCIO2 (power), 127 VCCIO2 (power), 141 VCCIO2 (power)
part E pins: 29 GND (power), 36 GND (power), 47 GND (power), 62 GND (power), 72 GND (power), 89 GND (power), 90 GND (power), 99 GND (power), 108 GND (power), 123 GND (power), 144 GND (power)
part A text: BANK 1
part B text: BANK 2

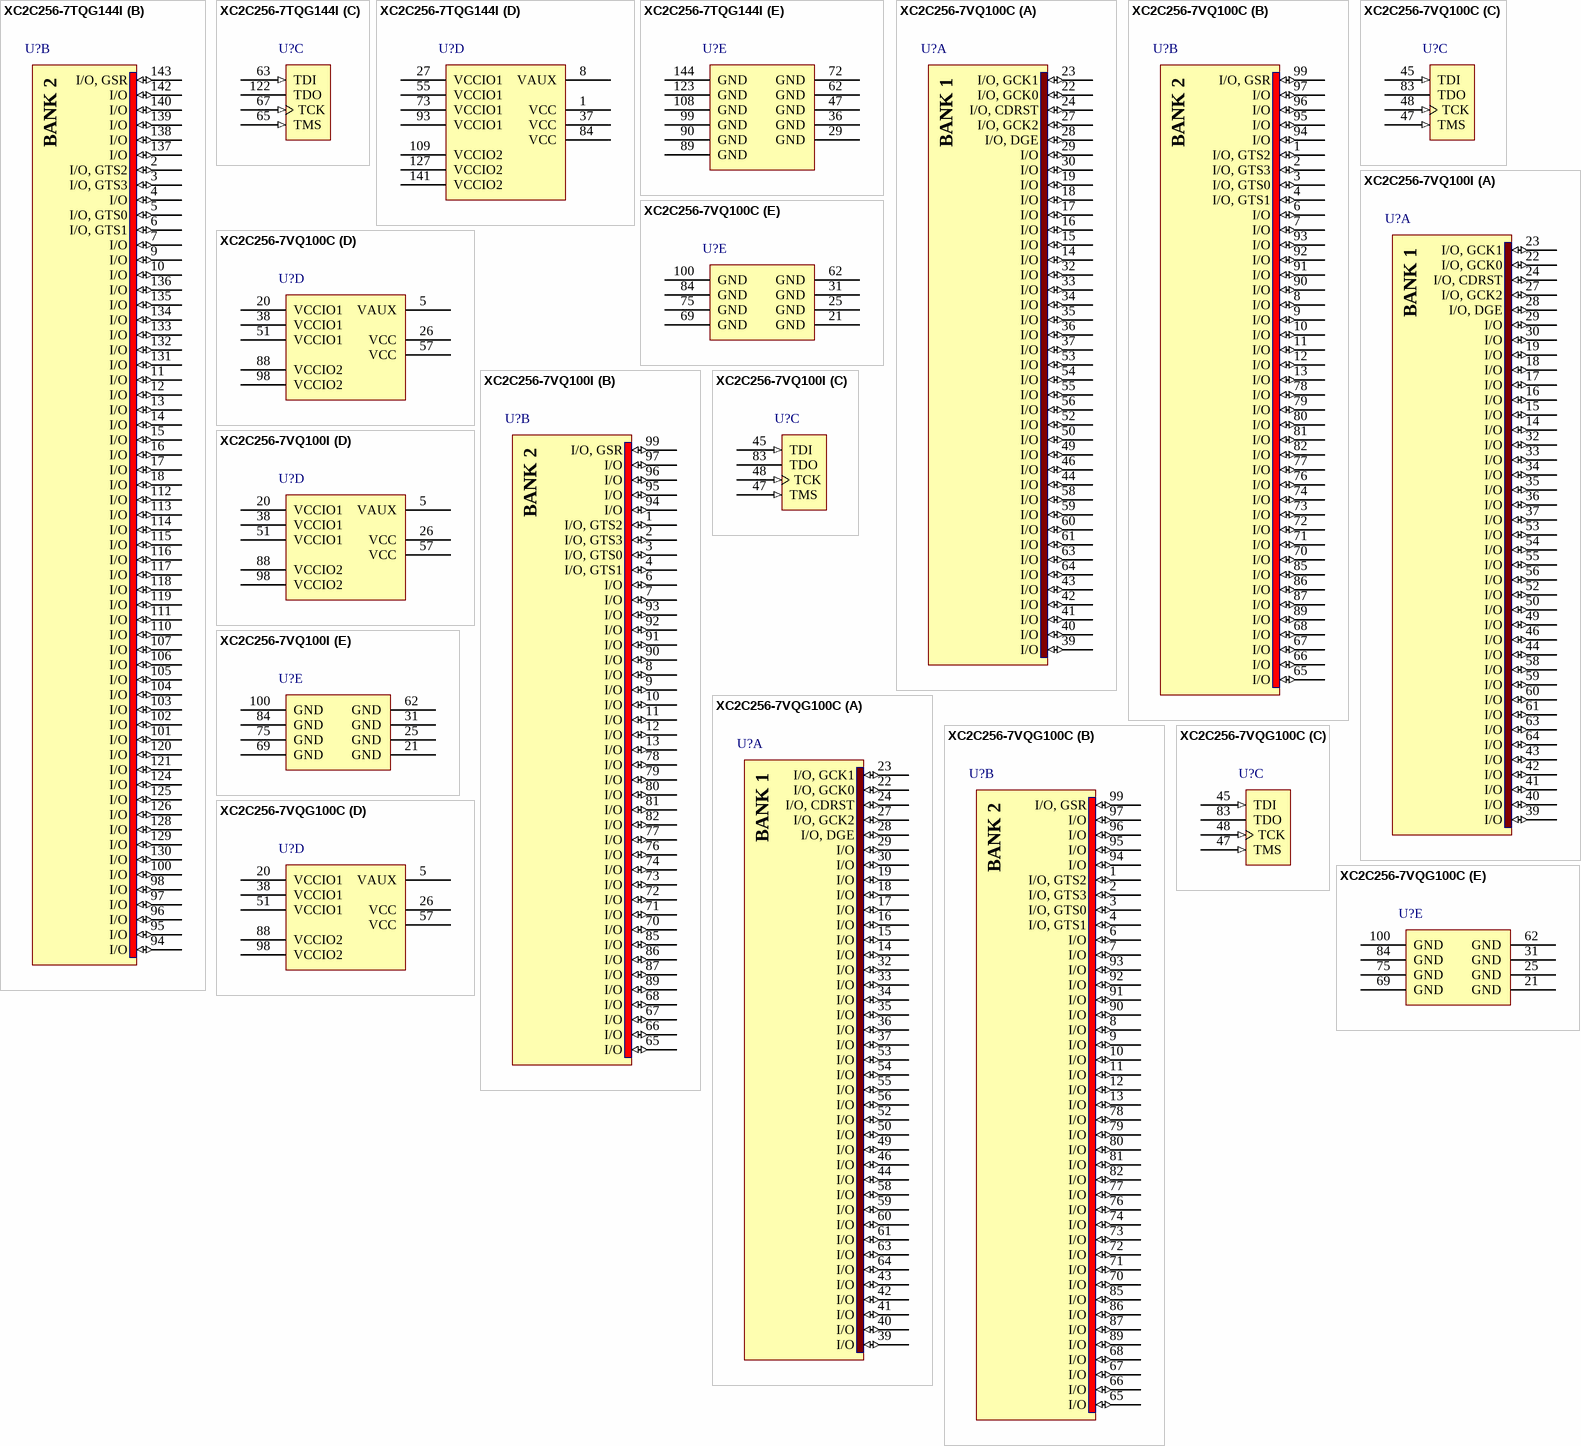
[diagram p35: symbols XC2C256-7TQG144I to XC2C256-7VQG100C]